# Altium integrated library ST Microcontroller 8-Bit.IntLib: 1326 symbols (part 34 of 45)
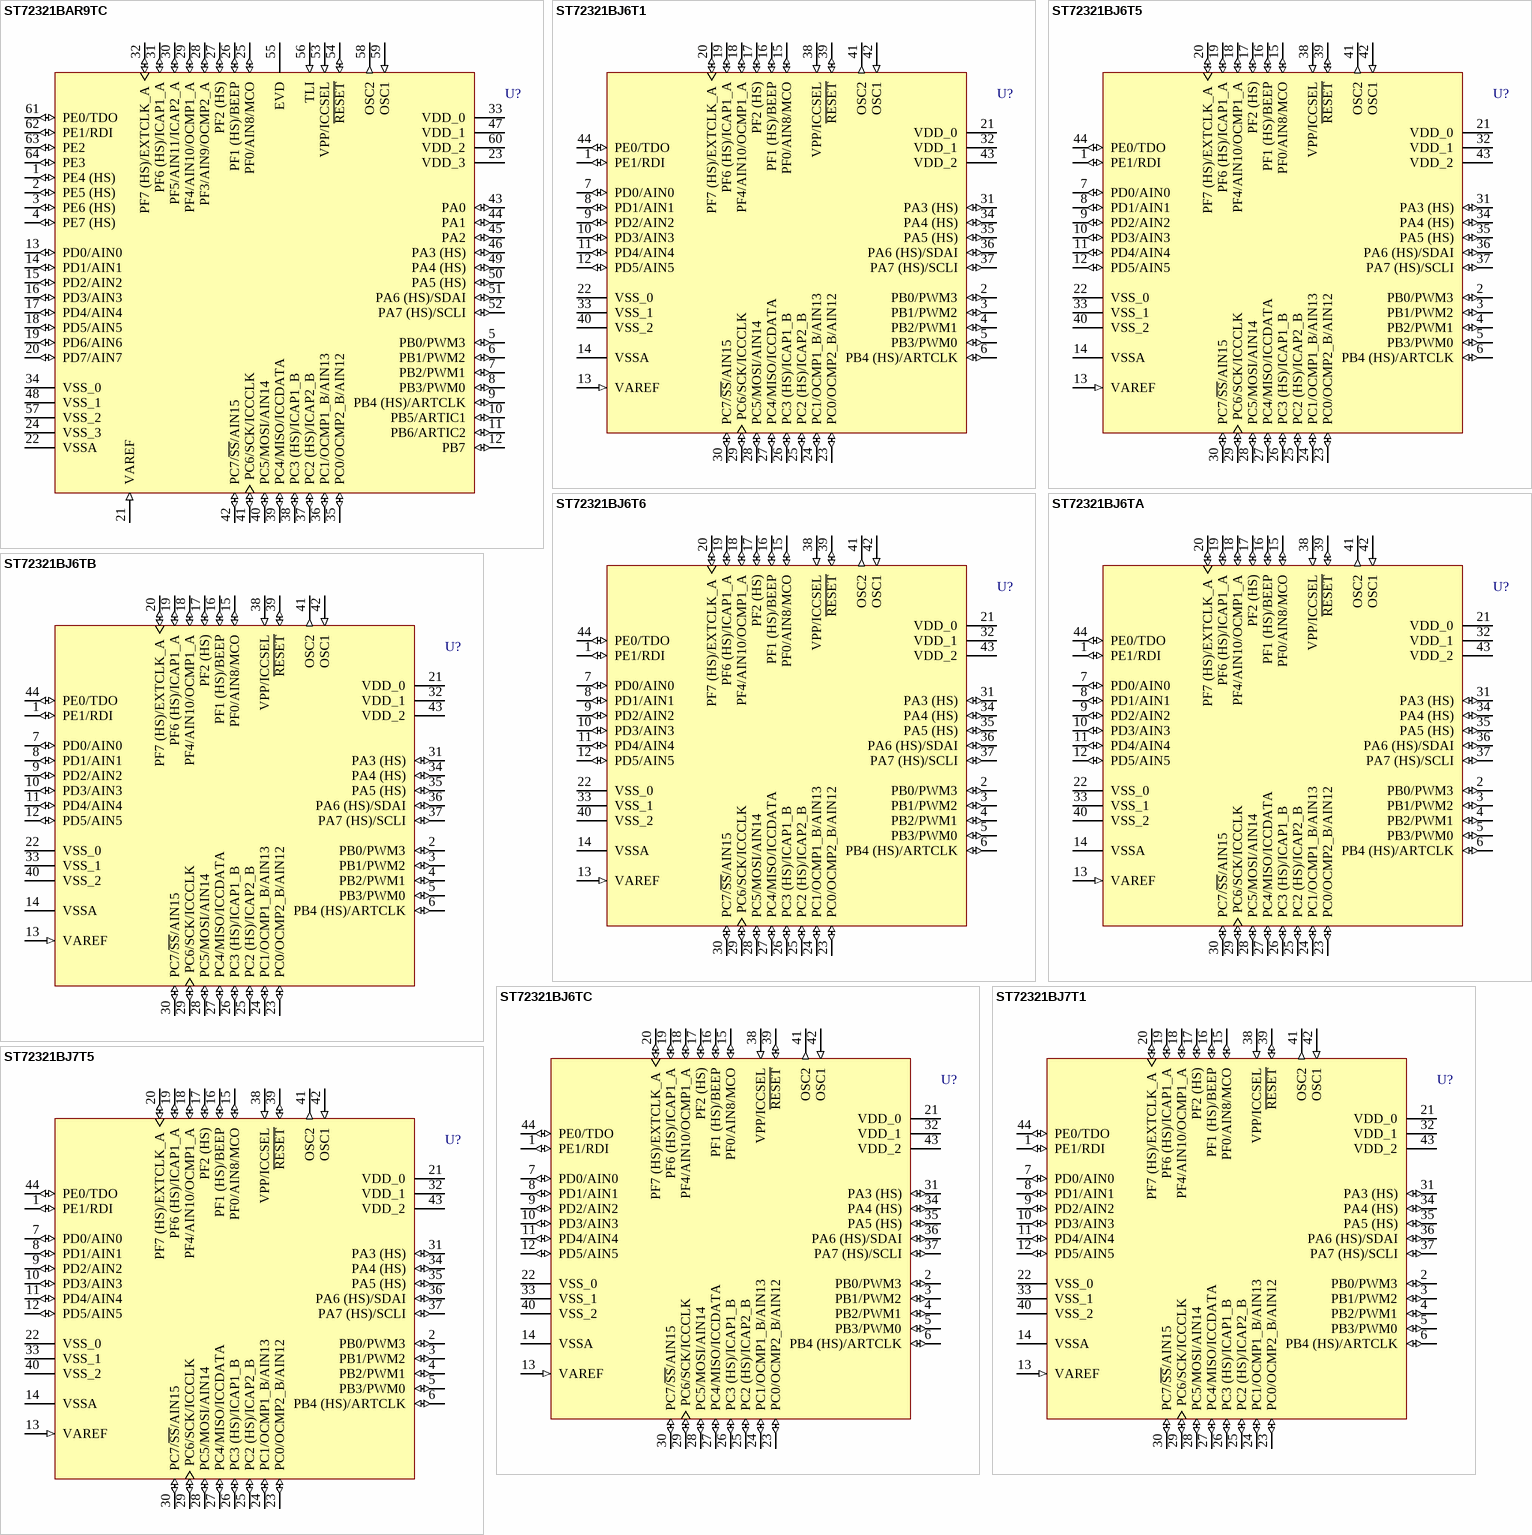
[diagram p200: symbols ST72321BAR9TC to ST72321BJ7T5]

## ST72321BJ6TC
designator U?
8-Bit MCU with 32k ROM, 1024b RAM, Five Timers, SPI, SCI and I²C Interfaces, 44-Pin TQFP, Automotive; Note: Pins 2-6, 15-17 and 31 are External Interrupt (EI) pins.; Published: 26-May-2004; LatestRevisionDate: 13-Apr-2006; LatestRevisionNote: IPC-7351 Footprint Added.; DatasheetVersion: rev1.1, Oct-2003; PackageVersion: Oct-2003; PackageReference: TQFP44; Publisher: Altium Limited; PackageDescription: 44-Pin Thin Plastic Quad Flat Pack 0.8 mm Pitch; ComponentLink1Description: Manufacturer Link; ComponentLink1URL: http://www.st.com/; ComponentLink2Description: Datasheet; ComponentLink2URL: http://www.st.com/stonline/products/literature/ds/11000/st72321b.pdf
footprint TQFP44_N (Thin QFP, 44-Leads, Body 10x10mm, Pitch 0.8mm, IPC Medium Density)
footprint TQFP44_L (Thin QFP, 44-Leads, Body 10x10mm, Pitch 0.8mm, IPC High Density)
footprint TQFP44_M (Thin QFP, 44-Leads, Body 10x10mm, Pitch 0.8mm, IPC Low Density)
3D model ST72321B-TQFP44 (44-Pin Thin Plastic Quad Flat Pack 0.8 mm Pitch)
pins: 1 PE1/RDI (io), 2 PB0/PWM3 (io), 3 PB1/PWM2 (io), 4 PB2/PWM1 (io), 5 PB3/PWM0 (io), 6 PB4 (HS)/ARTCLK (io), 7 PD0/AIN0 (io), 8 PD1/AIN1 (io), 9 PD2/AIN2 (io), 10 PD3/AIN3 (io), 11 PD4/AIN4 (io), 12 PD5/AIN5 (io), 13 VAREF (in), 14 VSSA (power), 15 PF0/AIN8/MCO (io), 16 PF1 (HS)/BEEP (io), 17 PF2 (HS) (io), 18 PF4/AIN10/OCMP1_A (io), 19 PF6 (HS)/ICAP1_A (io), 20 PF7 (HS)/EXTCLK_A (io), 21 VDD_0 (power), 22 VSS_0 (power), 23 PC0/OCMP2_B/AIN12 (io), 24 PC1/OCMP1_B/AIN13 (io), 25 PC2 (HS)/ICAP2_B (io), 26 PC3 (HS)/ICAP1_B (io), 27 PC4/MISO/ICCDATA (io), 28 PC5/MOSI/AIN14 (io), 29 PC6/SCK/ICCCLK (io), 30 PC7/~{SS}/AIN15 (io), 31 PA3 (HS) (io), 32 VDD_1 (power), 33 VSS_1 (power), 34 PA4 (HS) (io), 35 PA5 (HS) (io), 36 PA6 (HS)/SDAI (io), 37 PA7 (HS)/SCLI (io), 38 VPP/ICCSEL (in), 39 ~{RESET} (io), 40 VSS_2 (power), 41 OSC2 (out), 42 OSC1 (in), 43 VDD_2 (power), 44 PE0/TDO (io)

## ST72321BJ7T1
designator U?
8-Bit MCU with 48k ROM, 1536b RAM, Five Timers, SPI, SCI and I²C Interfaces, 44-Pin TQFP, Standard; Note: Pins 2-6, 15-17 and 31 are External Interrupt (EI) pins.; Published: 26-May-2004; LatestRevisionDate: 13-Apr-2006; LatestRevisionNote: IPC-7351 Footprint Added.; DatasheetVersion: rev1.1, Oct-2003; PackageVersion: Oct-2003; PackageReference: TQFP44; Publisher: Altium Limited; PackageDescription: 44-Pin Thin Plastic Quad Flat Pack 0.8 mm Pitch; ComponentLink1Description: Manufacturer Link; ComponentLink1URL: http://www.st.com/; ComponentLink2Description: Datasheet; ComponentLink2URL: http://www.st.com/stonline/products/literature/ds/11000/st72321b.pdf
footprint TQFP44_N (Thin QFP, 44-Leads, Body 10x10mm, Pitch 0.8mm, IPC Medium Density)
footprint TQFP44_L (Thin QFP, 44-Leads, Body 10x10mm, Pitch 0.8mm, IPC High Density)
footprint TQFP44_M (Thin QFP, 44-Leads, Body 10x10mm, Pitch 0.8mm, IPC Low Density)
3D model ST72321B-TQFP44 (44-Pin Thin Plastic Quad Flat Pack 0.8 mm Pitch)
pins: 1 PE1/RDI (io), 2 PB0/PWM3 (io), 3 PB1/PWM2 (io), 4 PB2/PWM1 (io), 5 PB3/PWM0 (io), 6 PB4 (HS)/ARTCLK (io), 7 PD0/AIN0 (io), 8 PD1/AIN1 (io), 9 PD2/AIN2 (io), 10 PD3/AIN3 (io), 11 PD4/AIN4 (io), 12 PD5/AIN5 (io), 13 VAREF (in), 14 VSSA (power), 15 PF0/AIN8/MCO (io), 16 PF1 (HS)/BEEP (io), 17 PF2 (HS) (io), 18 PF4/AIN10/OCMP1_A (io), 19 PF6 (HS)/ICAP1_A (io), 20 PF7 (HS)/EXTCLK_A (io), 21 VDD_0 (power), 22 VSS_0 (power), 23 PC0/OCMP2_B/AIN12 (io), 24 PC1/OCMP1_B/AIN13 (io), 25 PC2 (HS)/ICAP2_B (io), 26 PC3 (HS)/ICAP1_B (io), 27 PC4/MISO/ICCDATA (io), 28 PC5/MOSI/AIN14 (io), 29 PC6/SCK/ICCCLK (io), 30 PC7/~{SS}/AIN15 (io), 31 PA3 (HS) (io), 32 VDD_1 (power), 33 VSS_1 (power), 34 PA4 (HS) (io), 35 PA5 (HS) (io), 36 PA6 (HS)/SDAI (io), 37 PA7 (HS)/SCLI (io), 38 VPP/ICCSEL (in), 39 ~{RESET} (io), 40 VSS_2 (power), 41 OSC2 (out), 42 OSC1 (in), 43 VDD_2 (power), 44 PE0/TDO (io)

## ST72321BJ7T5
designator U?
8-Bit MCU with 48k ROM, 1536b RAM, Five Timers, SPI, SCI and I²C Interfaces, 44-Pin TQFP, Standard; Note: Pins 2-6, 15-17 and 31 are External Interrupt (EI) pins.; Published: 26-May-2004; LatestRevisionDate: 13-Apr-2006; LatestRevisionNote: IPC-7351 Footprint Added.; DatasheetVersion: rev1.1, Oct-2003; PackageVersion: Oct-2003; PackageReference: TQFP44; Publisher: Altium Limited; PackageDescription: 44-Pin Thin Plastic Quad Flat Pack 0.8 mm Pitch; ComponentLink1Description: Manufacturer Link; ComponentLink1URL: http://www.st.com/; ComponentLink2Description: Datasheet; ComponentLink2URL: http://www.st.com/stonline/products/literature/ds/11000/st72321b.pdf
footprint TQFP44_N (Thin QFP, 44-Leads, Body 10x10mm, Pitch 0.8mm, IPC Medium Density)
footprint TQFP44_L (Thin QFP, 44-Leads, Body 10x10mm, Pitch 0.8mm, IPC High Density)
footprint TQFP44_M (Thin QFP, 44-Leads, Body 10x10mm, Pitch 0.8mm, IPC Low Density)
3D model ST72321B-TQFP44 (44-Pin Thin Plastic Quad Flat Pack 0.8 mm Pitch)
pins: 1 PE1/RDI (io), 2 PB0/PWM3 (io), 3 PB1/PWM2 (io), 4 PB2/PWM1 (io), 5 PB3/PWM0 (io), 6 PB4 (HS)/ARTCLK (io), 7 PD0/AIN0 (io), 8 PD1/AIN1 (io), 9 PD2/AIN2 (io), 10 PD3/AIN3 (io), 11 PD4/AIN4 (io), 12 PD5/AIN5 (io), 13 VAREF (in), 14 VSSA (power), 15 PF0/AIN8/MCO (io), 16 PF1 (HS)/BEEP (io), 17 PF2 (HS) (io), 18 PF4/AIN10/OCMP1_A (io), 19 PF6 (HS)/ICAP1_A (io), 20 PF7 (HS)/EXTCLK_A (io), 21 VDD_0 (power), 22 VSS_0 (power), 23 PC0/OCMP2_B/AIN12 (io), 24 PC1/OCMP1_B/AIN13 (io), 25 PC2 (HS)/ICAP2_B (io), 26 PC3 (HS)/ICAP1_B (io), 27 PC4/MISO/ICCDATA (io), 28 PC5/MOSI/AIN14 (io), 29 PC6/SCK/ICCCLK (io), 30 PC7/~{SS}/AIN15 (io), 31 PA3 (HS) (io), 32 VDD_1 (power), 33 VSS_1 (power), 34 PA4 (HS) (io), 35 PA5 (HS) (io), 36 PA6 (HS)/SDAI (io), 37 PA7 (HS)/SCLI (io), 38 VPP/ICCSEL (in), 39 ~{RESET} (io), 40 VSS_2 (power), 41 OSC2 (out), 42 OSC1 (in), 43 VDD_2 (power), 44 PE0/TDO (io)

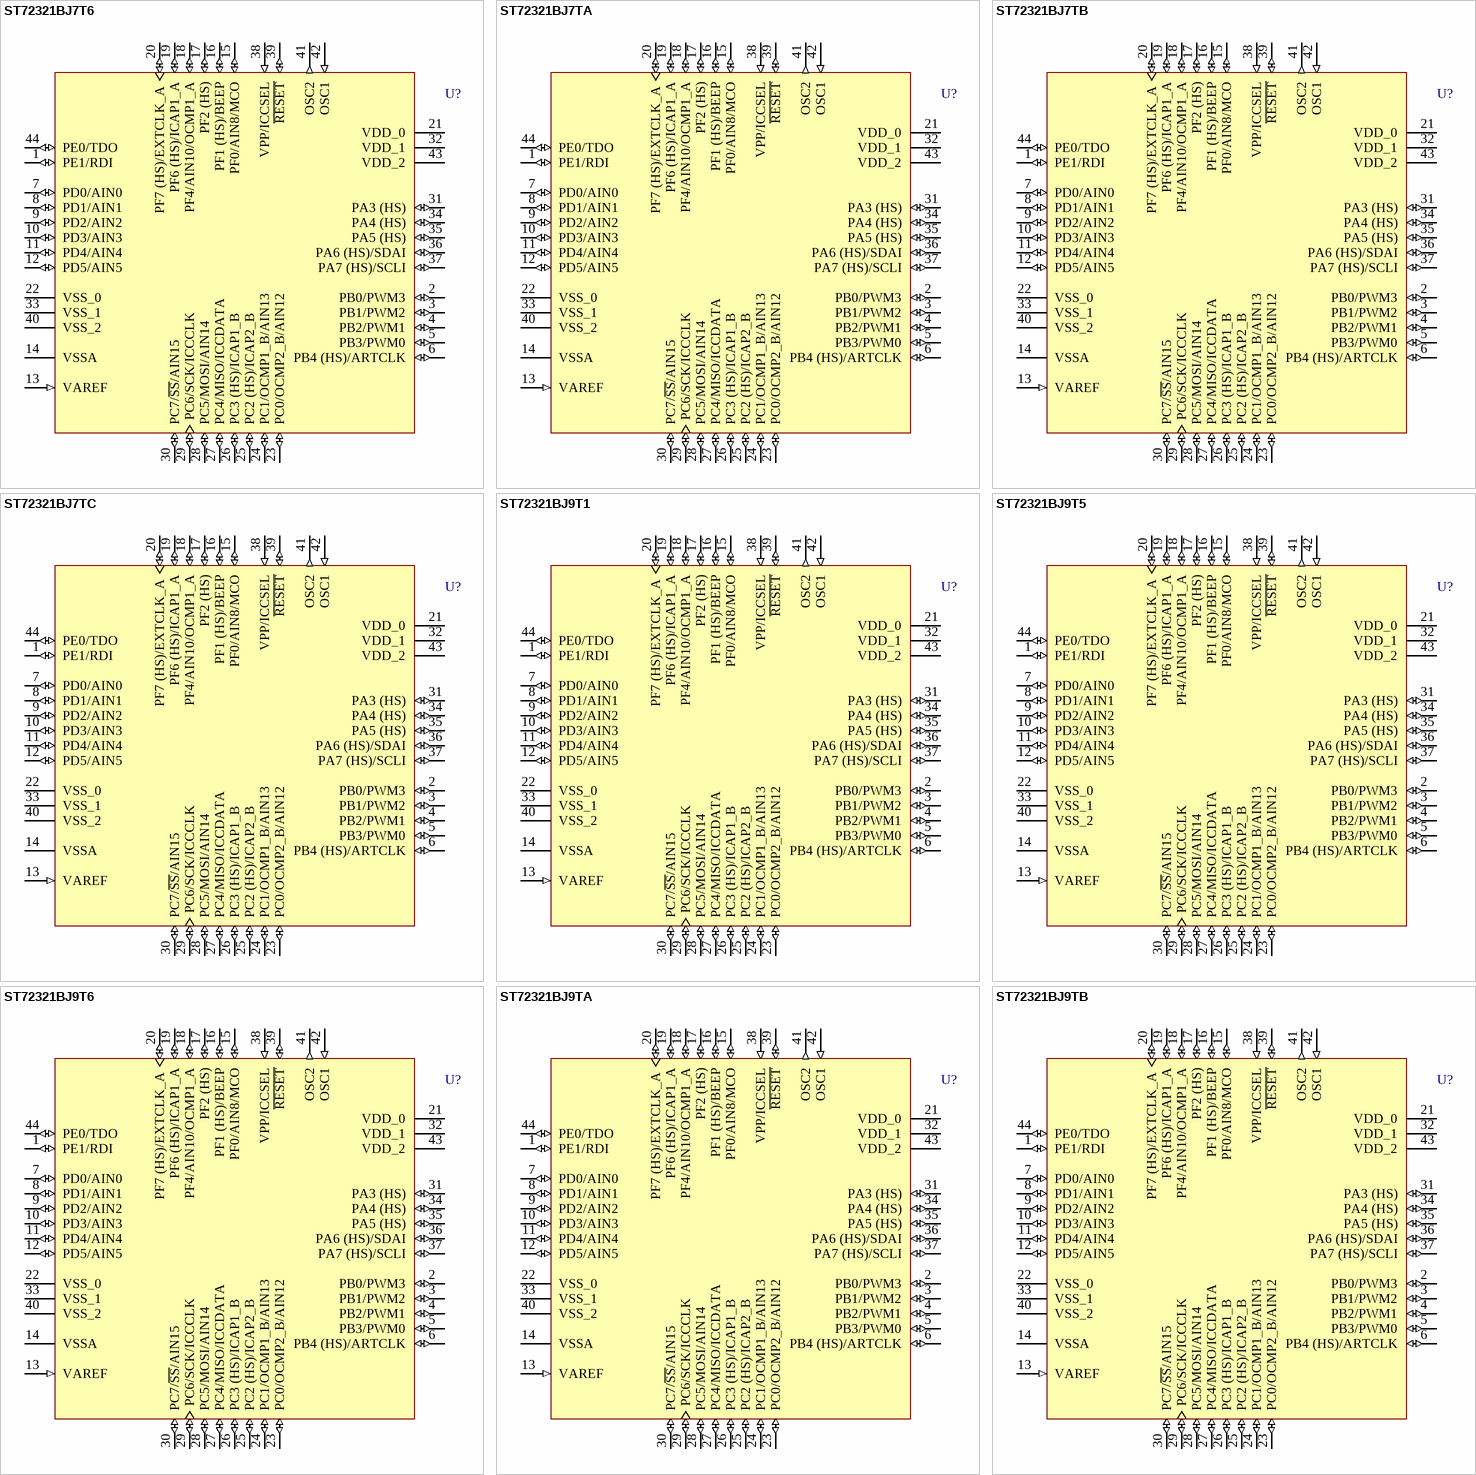
[diagram p118: symbols ST72321BJ7T6 to ST72321BJ9TB]

## ST72321BJ7T6
designator U?
8-Bit MCU with 48k ROM, 1536b RAM, Five Timers, SPI, SCI and I²C Interfaces, 44-Pin TQFP, Standard; Note: Pins 2-6, 15-17 and 31 are External Interrupt (EI) pins.; Published: 26-May-2004; LatestRevisionDate: 13-Apr-2006; LatestRevisionNote: IPC-7351 Footprint Added.; DatasheetVersion: rev1.1, Oct-2003; PackageVersion: Oct-2003; PackageReference: TQFP44; Publisher: Altium Limited; PackageDescription: 44-Pin Thin Plastic Quad Flat Pack 0.8 mm Pitch; ComponentLink1Description: Manufacturer Link; ComponentLink1URL: http://www.st.com/; ComponentLink2Description: Datasheet; ComponentLink2URL: http://www.st.com/stonline/products/literature/ds/11000/st72321b.pdf
footprint TQFP44_N (Thin QFP, 44-Leads, Body 10x10mm, Pitch 0.8mm, IPC Medium Density)
footprint TQFP44_L (Thin QFP, 44-Leads, Body 10x10mm, Pitch 0.8mm, IPC High Density)
footprint TQFP44_M (Thin QFP, 44-Leads, Body 10x10mm, Pitch 0.8mm, IPC Low Density)
3D model ST72321B-TQFP44 (44-Pin Thin Plastic Quad Flat Pack 0.8 mm Pitch)
pins: 1 PE1/RDI (io), 2 PB0/PWM3 (io), 3 PB1/PWM2 (io), 4 PB2/PWM1 (io), 5 PB3/PWM0 (io), 6 PB4 (HS)/ARTCLK (io), 7 PD0/AIN0 (io), 8 PD1/AIN1 (io), 9 PD2/AIN2 (io), 10 PD3/AIN3 (io), 11 PD4/AIN4 (io), 12 PD5/AIN5 (io), 13 VAREF (in), 14 VSSA (power), 15 PF0/AIN8/MCO (io), 16 PF1 (HS)/BEEP (io), 17 PF2 (HS) (io), 18 PF4/AIN10/OCMP1_A (io), 19 PF6 (HS)/ICAP1_A (io), 20 PF7 (HS)/EXTCLK_A (io), 21 VDD_0 (power), 22 VSS_0 (power), 23 PC0/OCMP2_B/AIN12 (io), 24 PC1/OCMP1_B/AIN13 (io), 25 PC2 (HS)/ICAP2_B (io), 26 PC3 (HS)/ICAP1_B (io), 27 PC4/MISO/ICCDATA (io), 28 PC5/MOSI/AIN14 (io), 29 PC6/SCK/ICCCLK (io), 30 PC7/~{SS}/AIN15 (io), 31 PA3 (HS) (io), 32 VDD_1 (power), 33 VSS_1 (power), 34 PA4 (HS) (io), 35 PA5 (HS) (io), 36 PA6 (HS)/SDAI (io), 37 PA7 (HS)/SCLI (io), 38 VPP/ICCSEL (in), 39 ~{RESET} (io), 40 VSS_2 (power), 41 OSC2 (out), 42 OSC1 (in), 43 VDD_2 (power), 44 PE0/TDO (io)

## ST72321BJ7TA
designator U?
8-Bit MCU with 48k ROM, 1536b RAM, Five Timers, SPI, SCI and I²C Interfaces, 44-Pin TQFP, Automotive; Note: Pins 2-6, 15-17 and 31 are External Interrupt (EI) pins.; Published: 26-May-2004; LatestRevisionDate: 13-Apr-2006; LatestRevisionNote: IPC-7351 Footprint Added.; DatasheetVersion: rev1.1, Oct-2003; PackageVersion: Oct-2003; PackageReference: TQFP44; Publisher: Altium Limited; PackageDescription: 44-Pin Thin Plastic Quad Flat Pack 0.8 mm Pitch; ComponentLink1Description: Manufacturer Link; ComponentLink1URL: http://www.st.com/; ComponentLink2Description: Datasheet; ComponentLink2URL: http://www.st.com/stonline/products/literature/ds/11000/st72321b.pdf
footprint TQFP44_N (Thin QFP, 44-Leads, Body 10x10mm, Pitch 0.8mm, IPC Medium Density)
footprint TQFP44_L (Thin QFP, 44-Leads, Body 10x10mm, Pitch 0.8mm, IPC High Density)
footprint TQFP44_M (Thin QFP, 44-Leads, Body 10x10mm, Pitch 0.8mm, IPC Low Density)
3D model ST72321B-TQFP44 (44-Pin Thin Plastic Quad Flat Pack 0.8 mm Pitch)
pins: 1 PE1/RDI (io), 2 PB0/PWM3 (io), 3 PB1/PWM2 (io), 4 PB2/PWM1 (io), 5 PB3/PWM0 (io), 6 PB4 (HS)/ARTCLK (io), 7 PD0/AIN0 (io), 8 PD1/AIN1 (io), 9 PD2/AIN2 (io), 10 PD3/AIN3 (io), 11 PD4/AIN4 (io), 12 PD5/AIN5 (io), 13 VAREF (in), 14 VSSA (power), 15 PF0/AIN8/MCO (io), 16 PF1 (HS)/BEEP (io), 17 PF2 (HS) (io), 18 PF4/AIN10/OCMP1_A (io), 19 PF6 (HS)/ICAP1_A (io), 20 PF7 (HS)/EXTCLK_A (io), 21 VDD_0 (power), 22 VSS_0 (power), 23 PC0/OCMP2_B/AIN12 (io), 24 PC1/OCMP1_B/AIN13 (io), 25 PC2 (HS)/ICAP2_B (io), 26 PC3 (HS)/ICAP1_B (io), 27 PC4/MISO/ICCDATA (io), 28 PC5/MOSI/AIN14 (io), 29 PC6/SCK/ICCCLK (io), 30 PC7/~{SS}/AIN15 (io), 31 PA3 (HS) (io), 32 VDD_1 (power), 33 VSS_1 (power), 34 PA4 (HS) (io), 35 PA5 (HS) (io), 36 PA6 (HS)/SDAI (io), 37 PA7 (HS)/SCLI (io), 38 VPP/ICCSEL (in), 39 ~{RESET} (io), 40 VSS_2 (power), 41 OSC2 (out), 42 OSC1 (in), 43 VDD_2 (power), 44 PE0/TDO (io)

## ST72321BJ7TB
designator U?
8-Bit MCU with 48k ROM, 1536b RAM, Five Timers, SPI, SCI and I²C Interfaces, 44-Pin TQFP, Automotive; Note: Pins 2-6, 15-17 and 31 are External Interrupt (EI) pins.; Published: 26-May-2004; LatestRevisionDate: 13-Apr-2006; LatestRevisionNote: IPC-7351 Footprint Added.; DatasheetVersion: rev1.1, Oct-2003; PackageVersion: Oct-2003; PackageReference: TQFP44; Publisher: Altium Limited; PackageDescription: 44-Pin Thin Plastic Quad Flat Pack 0.8 mm Pitch; ComponentLink1Description: Manufacturer Link; ComponentLink1URL: http://www.st.com/; ComponentLink2Description: Datasheet; ComponentLink2URL: http://www.st.com/stonline/products/literature/ds/11000/st72321b.pdf
footprint TQFP44_N (Thin QFP, 44-Leads, Body 10x10mm, Pitch 0.8mm, IPC Medium Density)
footprint TQFP44_L (Thin QFP, 44-Leads, Body 10x10mm, Pitch 0.8mm, IPC High Density)
footprint TQFP44_M (Thin QFP, 44-Leads, Body 10x10mm, Pitch 0.8mm, IPC Low Density)
3D model ST72321B-TQFP44 (44-Pin Thin Plastic Quad Flat Pack 0.8 mm Pitch)
pins: 1 PE1/RDI (io), 2 PB0/PWM3 (io), 3 PB1/PWM2 (io), 4 PB2/PWM1 (io), 5 PB3/PWM0 (io), 6 PB4 (HS)/ARTCLK (io), 7 PD0/AIN0 (io), 8 PD1/AIN1 (io), 9 PD2/AIN2 (io), 10 PD3/AIN3 (io), 11 PD4/AIN4 (io), 12 PD5/AIN5 (io), 13 VAREF (in), 14 VSSA (power), 15 PF0/AIN8/MCO (io), 16 PF1 (HS)/BEEP (io), 17 PF2 (HS) (io), 18 PF4/AIN10/OCMP1_A (io), 19 PF6 (HS)/ICAP1_A (io), 20 PF7 (HS)/EXTCLK_A (io), 21 VDD_0 (power), 22 VSS_0 (power), 23 PC0/OCMP2_B/AIN12 (io), 24 PC1/OCMP1_B/AIN13 (io), 25 PC2 (HS)/ICAP2_B (io), 26 PC3 (HS)/ICAP1_B (io), 27 PC4/MISO/ICCDATA (io), 28 PC5/MOSI/AIN14 (io), 29 PC6/SCK/ICCCLK (io), 30 PC7/~{SS}/AIN15 (io), 31 PA3 (HS) (io), 32 VDD_1 (power), 33 VSS_1 (power), 34 PA4 (HS) (io), 35 PA5 (HS) (io), 36 PA6 (HS)/SDAI (io), 37 PA7 (HS)/SCLI (io), 38 VPP/ICCSEL (in), 39 ~{RESET} (io), 40 VSS_2 (power), 41 OSC2 (out), 42 OSC1 (in), 43 VDD_2 (power), 44 PE0/TDO (io)

## ST72321BJ7TC
designator U?
8-Bit MCU with 48k ROM, 1536b RAM, Five Timers, SPI, SCI and I²C Interfaces, 44-Pin TQFP, Automotive; Note: Pins 2-6, 15-17 and 31 are External Interrupt (EI) pins.; Published: 26-May-2004; LatestRevisionDate: 13-Apr-2006; LatestRevisionNote: IPC-7351 Footprint Added.; DatasheetVersion: rev1.1, Oct-2003; PackageVersion: Oct-2003; PackageReference: TQFP44; Publisher: Altium Limited; PackageDescription: 44-Pin Thin Plastic Quad Flat Pack 0.8 mm Pitch; ComponentLink1Description: Manufacturer Link; ComponentLink1URL: http://www.st.com/; ComponentLink2Description: Datasheet; ComponentLink2URL: http://www.st.com/stonline/products/literature/ds/11000/st72321b.pdf
footprint TQFP44_N (Thin QFP, 44-Leads, Body 10x10mm, Pitch 0.8mm, IPC Medium Density)
footprint TQFP44_L (Thin QFP, 44-Leads, Body 10x10mm, Pitch 0.8mm, IPC High Density)
footprint TQFP44_M (Thin QFP, 44-Leads, Body 10x10mm, Pitch 0.8mm, IPC Low Density)
3D model ST72321B-TQFP44 (44-Pin Thin Plastic Quad Flat Pack 0.8 mm Pitch)
pins: 1 PE1/RDI (io), 2 PB0/PWM3 (io), 3 PB1/PWM2 (io), 4 PB2/PWM1 (io), 5 PB3/PWM0 (io), 6 PB4 (HS)/ARTCLK (io), 7 PD0/AIN0 (io), 8 PD1/AIN1 (io), 9 PD2/AIN2 (io), 10 PD3/AIN3 (io), 11 PD4/AIN4 (io), 12 PD5/AIN5 (io), 13 VAREF (in), 14 VSSA (power), 15 PF0/AIN8/MCO (io), 16 PF1 (HS)/BEEP (io), 17 PF2 (HS) (io), 18 PF4/AIN10/OCMP1_A (io), 19 PF6 (HS)/ICAP1_A (io), 20 PF7 (HS)/EXTCLK_A (io), 21 VDD_0 (power), 22 VSS_0 (power), 23 PC0/OCMP2_B/AIN12 (io), 24 PC1/OCMP1_B/AIN13 (io), 25 PC2 (HS)/ICAP2_B (io), 26 PC3 (HS)/ICAP1_B (io), 27 PC4/MISO/ICCDATA (io), 28 PC5/MOSI/AIN14 (io), 29 PC6/SCK/ICCCLK (io), 30 PC7/~{SS}/AIN15 (io), 31 PA3 (HS) (io), 32 VDD_1 (power), 33 VSS_1 (power), 34 PA4 (HS) (io), 35 PA5 (HS) (io), 36 PA6 (HS)/SDAI (io), 37 PA7 (HS)/SCLI (io), 38 VPP/ICCSEL (in), 39 ~{RESET} (io), 40 VSS_2 (power), 41 OSC2 (out), 42 OSC1 (in), 43 VDD_2 (power), 44 PE0/TDO (io)

## ST72321BJ9T1
designator U?
8-Bit MCU with 60k ROM, 2048b RAM, Five Timers, SPI, SCI and I²C Interfaces, 44-Pin TQFP, Standard; Note: Pins 2-6, 15-17 and 31 are External Interrupt (EI) pins.; Published: 26-May-2004; LatestRevisionDate: 13-Apr-2006; LatestRevisionNote: IPC-7351 Footprint Added.; DatasheetVersion: rev1.1, Oct-2003; PackageVersion: Oct-2003; PackageReference: TQFP44; Publisher: Altium Limited; PackageDescription: 44-Pin Thin Plastic Quad Flat Pack 0.8 mm Pitch; ComponentLink1Description: Manufacturer Link; ComponentLink1URL: http://www.st.com/; ComponentLink2Description: Datasheet; ComponentLink2URL: http://www.st.com/stonline/products/literature/ds/11000/st72321b.pdf
footprint TQFP44_N (Thin QFP, 44-Leads, Body 10x10mm, Pitch 0.8mm, IPC Medium Density)
footprint TQFP44_L (Thin QFP, 44-Leads, Body 10x10mm, Pitch 0.8mm, IPC High Density)
footprint TQFP44_M (Thin QFP, 44-Leads, Body 10x10mm, Pitch 0.8mm, IPC Low Density)
3D model ST72321B-TQFP44 (44-Pin Thin Plastic Quad Flat Pack 0.8 mm Pitch)
pins: 1 PE1/RDI (io), 2 PB0/PWM3 (io), 3 PB1/PWM2 (io), 4 PB2/PWM1 (io), 5 PB3/PWM0 (io), 6 PB4 (HS)/ARTCLK (io), 7 PD0/AIN0 (io), 8 PD1/AIN1 (io), 9 PD2/AIN2 (io), 10 PD3/AIN3 (io), 11 PD4/AIN4 (io), 12 PD5/AIN5 (io), 13 VAREF (in), 14 VSSA (power), 15 PF0/AIN8/MCO (io), 16 PF1 (HS)/BEEP (io), 17 PF2 (HS) (io), 18 PF4/AIN10/OCMP1_A (io), 19 PF6 (HS)/ICAP1_A (io), 20 PF7 (HS)/EXTCLK_A (io), 21 VDD_0 (power), 22 VSS_0 (power), 23 PC0/OCMP2_B/AIN12 (io), 24 PC1/OCMP1_B/AIN13 (io), 25 PC2 (HS)/ICAP2_B (io), 26 PC3 (HS)/ICAP1_B (io), 27 PC4/MISO/ICCDATA (io), 28 PC5/MOSI/AIN14 (io), 29 PC6/SCK/ICCCLK (io), 30 PC7/~{SS}/AIN15 (io), 31 PA3 (HS) (io), 32 VDD_1 (power), 33 VSS_1 (power), 34 PA4 (HS) (io), 35 PA5 (HS) (io), 36 PA6 (HS)/SDAI (io), 37 PA7 (HS)/SCLI (io), 38 VPP/ICCSEL (in), 39 ~{RESET} (io), 40 VSS_2 (power), 41 OSC2 (out), 42 OSC1 (in), 43 VDD_2 (power), 44 PE0/TDO (io)

## ST72321BJ9T5
designator U?
8-Bit MCU with 60k ROM, 2048b RAM, Five Timers, SPI, SCI and I²C Interfaces, 44-Pin TQFP, Standard; Note: Pins 2-6, 15-17 and 31 are External Interrupt (EI) pins.; Published: 26-May-2004; LatestRevisionDate: 13-Apr-2006; LatestRevisionNote: IPC-7351 Footprint Added.; DatasheetVersion: rev1.1, Oct-2003; PackageVersion: Oct-2003; PackageReference: TQFP44; Publisher: Altium Limited; PackageDescription: 44-Pin Thin Plastic Quad Flat Pack 0.8 mm Pitch; ComponentLink1Description: Manufacturer Link; ComponentLink1URL: http://www.st.com/; ComponentLink2Description: Datasheet; ComponentLink2URL: http://www.st.com/stonline/products/literature/ds/11000/st72321b.pdf
footprint TQFP44_N (Thin QFP, 44-Leads, Body 10x10mm, Pitch 0.8mm, IPC Medium Density)
footprint TQFP44_L (Thin QFP, 44-Leads, Body 10x10mm, Pitch 0.8mm, IPC High Density)
footprint TQFP44_M (Thin QFP, 44-Leads, Body 10x10mm, Pitch 0.8mm, IPC Low Density)
3D model ST72321B-TQFP44 (44-Pin Thin Plastic Quad Flat Pack 0.8 mm Pitch)
pins: 1 PE1/RDI (io), 2 PB0/PWM3 (io), 3 PB1/PWM2 (io), 4 PB2/PWM1 (io), 5 PB3/PWM0 (io), 6 PB4 (HS)/ARTCLK (io), 7 PD0/AIN0 (io), 8 PD1/AIN1 (io), 9 PD2/AIN2 (io), 10 PD3/AIN3 (io), 11 PD4/AIN4 (io), 12 PD5/AIN5 (io), 13 VAREF (in), 14 VSSA (power), 15 PF0/AIN8/MCO (io), 16 PF1 (HS)/BEEP (io), 17 PF2 (HS) (io), 18 PF4/AIN10/OCMP1_A (io), 19 PF6 (HS)/ICAP1_A (io), 20 PF7 (HS)/EXTCLK_A (io), 21 VDD_0 (power), 22 VSS_0 (power), 23 PC0/OCMP2_B/AIN12 (io), 24 PC1/OCMP1_B/AIN13 (io), 25 PC2 (HS)/ICAP2_B (io), 26 PC3 (HS)/ICAP1_B (io), 27 PC4/MISO/ICCDATA (io), 28 PC5/MOSI/AIN14 (io), 29 PC6/SCK/ICCCLK (io), 30 PC7/~{SS}/AIN15 (io), 31 PA3 (HS) (io), 32 VDD_1 (power), 33 VSS_1 (power), 34 PA4 (HS) (io), 35 PA5 (HS) (io), 36 PA6 (HS)/SDAI (io), 37 PA7 (HS)/SCLI (io), 38 VPP/ICCSEL (in), 39 ~{RESET} (io), 40 VSS_2 (power), 41 OSC2 (out), 42 OSC1 (in), 43 VDD_2 (power), 44 PE0/TDO (io)

## ST72321BJ9T6
designator U?
8-Bit MCU with 60k ROM, 2048b RAM, Five Timers, SPI, SCI and I²C Interfaces, 44-Pin TQFP, Standard; Note: Pins 2-6, 15-17 and 31 are External Interrupt (EI) pins.; Published: 26-May-2004; LatestRevisionDate: 13-Apr-2006; LatestRevisionNote: IPC-7351 Footprint Added.; DatasheetVersion: rev1.1, Oct-2003; PackageVersion: Oct-2003; PackageReference: TQFP44; Publisher: Altium Limited; PackageDescription: 44-Pin Thin Plastic Quad Flat Pack 0.8 mm Pitch; ComponentLink1Description: Manufacturer Link; ComponentLink1URL: http://www.st.com/; ComponentLink2Description: Datasheet; ComponentLink2URL: http://www.st.com/stonline/products/literature/ds/11000/st72321b.pdf
footprint TQFP44_N (Thin QFP, 44-Leads, Body 10x10mm, Pitch 0.8mm, IPC Medium Density)
footprint TQFP44_L (Thin QFP, 44-Leads, Body 10x10mm, Pitch 0.8mm, IPC High Density)
footprint TQFP44_M (Thin QFP, 44-Leads, Body 10x10mm, Pitch 0.8mm, IPC Low Density)
3D model ST72321B-TQFP44 (44-Pin Thin Plastic Quad Flat Pack 0.8 mm Pitch)
pins: 1 PE1/RDI (io), 2 PB0/PWM3 (io), 3 PB1/PWM2 (io), 4 PB2/PWM1 (io), 5 PB3/PWM0 (io), 6 PB4 (HS)/ARTCLK (io), 7 PD0/AIN0 (io), 8 PD1/AIN1 (io), 9 PD2/AIN2 (io), 10 PD3/AIN3 (io), 11 PD4/AIN4 (io), 12 PD5/AIN5 (io), 13 VAREF (in), 14 VSSA (power), 15 PF0/AIN8/MCO (io), 16 PF1 (HS)/BEEP (io), 17 PF2 (HS) (io), 18 PF4/AIN10/OCMP1_A (io), 19 PF6 (HS)/ICAP1_A (io), 20 PF7 (HS)/EXTCLK_A (io), 21 VDD_0 (power), 22 VSS_0 (power), 23 PC0/OCMP2_B/AIN12 (io), 24 PC1/OCMP1_B/AIN13 (io), 25 PC2 (HS)/ICAP2_B (io), 26 PC3 (HS)/ICAP1_B (io), 27 PC4/MISO/ICCDATA (io), 28 PC5/MOSI/AIN14 (io), 29 PC6/SCK/ICCCLK (io), 30 PC7/~{SS}/AIN15 (io), 31 PA3 (HS) (io), 32 VDD_1 (power), 33 VSS_1 (power), 34 PA4 (HS) (io), 35 PA5 (HS) (io), 36 PA6 (HS)/SDAI (io), 37 PA7 (HS)/SCLI (io), 38 VPP/ICCSEL (in), 39 ~{RESET} (io), 40 VSS_2 (power), 41 OSC2 (out), 42 OSC1 (in), 43 VDD_2 (power), 44 PE0/TDO (io)

## ST72321BJ9TA
designator U?
8-Bit MCU with 60k ROM, 2048b RAM, Five Timers, SPI, SCI and I²C Interfaces, 44-Pin TQFP, Automotive; Note: Pins 2-6, 15-17 and 31 are External Interrupt (EI) pins.; Published: 26-May-2004; LatestRevisionDate: 13-Apr-2006; LatestRevisionNote: IPC-7351 Footprint Added.; DatasheetVersion: rev1.1, Oct-2003; PackageVersion: Oct-2003; PackageReference: TQFP44; Publisher: Altium Limited; PackageDescription: 44-Pin Thin Plastic Quad Flat Pack 0.8 mm Pitch; ComponentLink1Description: Manufacturer Link; ComponentLink1URL: http://www.st.com/; ComponentLink2Description: Datasheet; ComponentLink2URL: http://www.st.com/stonline/products/literature/ds/11000/st72321b.pdf
footprint TQFP44_N (Thin QFP, 44-Leads, Body 10x10mm, Pitch 0.8mm, IPC Medium Density)
footprint TQFP44_L (Thin QFP, 44-Leads, Body 10x10mm, Pitch 0.8mm, IPC High Density)
footprint TQFP44_M (Thin QFP, 44-Leads, Body 10x10mm, Pitch 0.8mm, IPC Low Density)
3D model ST72321B-TQFP44 (44-Pin Thin Plastic Quad Flat Pack 0.8 mm Pitch)
pins: 1 PE1/RDI (io), 2 PB0/PWM3 (io), 3 PB1/PWM2 (io), 4 PB2/PWM1 (io), 5 PB3/PWM0 (io), 6 PB4 (HS)/ARTCLK (io), 7 PD0/AIN0 (io), 8 PD1/AIN1 (io), 9 PD2/AIN2 (io), 10 PD3/AIN3 (io), 11 PD4/AIN4 (io), 12 PD5/AIN5 (io), 13 VAREF (in), 14 VSSA (power), 15 PF0/AIN8/MCO (io), 16 PF1 (HS)/BEEP (io), 17 PF2 (HS) (io), 18 PF4/AIN10/OCMP1_A (io), 19 PF6 (HS)/ICAP1_A (io), 20 PF7 (HS)/EXTCLK_A (io), 21 VDD_0 (power), 22 VSS_0 (power), 23 PC0/OCMP2_B/AIN12 (io), 24 PC1/OCMP1_B/AIN13 (io), 25 PC2 (HS)/ICAP2_B (io), 26 PC3 (HS)/ICAP1_B (io), 27 PC4/MISO/ICCDATA (io), 28 PC5/MOSI/AIN14 (io), 29 PC6/SCK/ICCCLK (io), 30 PC7/~{SS}/AIN15 (io), 31 PA3 (HS) (io), 32 VDD_1 (power), 33 VSS_1 (power), 34 PA4 (HS) (io), 35 PA5 (HS) (io), 36 PA6 (HS)/SDAI (io), 37 PA7 (HS)/SCLI (io), 38 VPP/ICCSEL (in), 39 ~{RESET} (io), 40 VSS_2 (power), 41 OSC2 (out), 42 OSC1 (in), 43 VDD_2 (power), 44 PE0/TDO (io)

## ST72321BJ9TB
designator U?
8-Bit MCU with 60k ROM, 2048b RAM, Five Timers, SPI, SCI and I²C Interfaces, 44-Pin TQFP, Automotive; Note: Pins 2-6, 15-17 and 31 are External Interrupt (EI) pins.; Published: 26-May-2004; LatestRevisionDate: 13-Apr-2006; LatestRevisionNote: IPC-7351 Footprint Added.; DatasheetVersion: rev1.1, Oct-2003; PackageVersion: Oct-2003; PackageReference: TQFP44; Publisher: Altium Limited; PackageDescription: 44-Pin Thin Plastic Quad Flat Pack 0.8 mm Pitch; ComponentLink1Description: Manufacturer Link; ComponentLink1URL: http://www.st.com/; ComponentLink2Description: Datasheet; ComponentLink2URL: http://www.st.com/stonline/products/literature/ds/11000/st72321b.pdf
footprint TQFP44_N (Thin QFP, 44-Leads, Body 10x10mm, Pitch 0.8mm, IPC Medium Density)
footprint TQFP44_L (Thin QFP, 44-Leads, Body 10x10mm, Pitch 0.8mm, IPC High Density)
footprint TQFP44_M (Thin QFP, 44-Leads, Body 10x10mm, Pitch 0.8mm, IPC Low Density)
3D model ST72321B-TQFP44 (44-Pin Thin Plastic Quad Flat Pack 0.8 mm Pitch)
pins: 1 PE1/RDI (io), 2 PB0/PWM3 (io), 3 PB1/PWM2 (io), 4 PB2/PWM1 (io), 5 PB3/PWM0 (io), 6 PB4 (HS)/ARTCLK (io), 7 PD0/AIN0 (io), 8 PD1/AIN1 (io), 9 PD2/AIN2 (io), 10 PD3/AIN3 (io), 11 PD4/AIN4 (io), 12 PD5/AIN5 (io), 13 VAREF (in), 14 VSSA (power), 15 PF0/AIN8/MCO (io), 16 PF1 (HS)/BEEP (io), 17 PF2 (HS) (io), 18 PF4/AIN10/OCMP1_A (io), 19 PF6 (HS)/ICAP1_A (io), 20 PF7 (HS)/EXTCLK_A (io), 21 VDD_0 (power), 22 VSS_0 (power), 23 PC0/OCMP2_B/AIN12 (io), 24 PC1/OCMP1_B/AIN13 (io), 25 PC2 (HS)/ICAP2_B (io), 26 PC3 (HS)/ICAP1_B (io), 27 PC4/MISO/ICCDATA (io), 28 PC5/MOSI/AIN14 (io), 29 PC6/SCK/ICCCLK (io), 30 PC7/~{SS}/AIN15 (io), 31 PA3 (HS) (io), 32 VDD_1 (power), 33 VSS_1 (power), 34 PA4 (HS) (io), 35 PA5 (HS) (io), 36 PA6 (HS)/SDAI (io), 37 PA7 (HS)/SCLI (io), 38 VPP/ICCSEL (in), 39 ~{RESET} (io), 40 VSS_2 (power), 41 OSC2 (out), 42 OSC1 (in), 43 VDD_2 (power), 44 PE0/TDO (io)

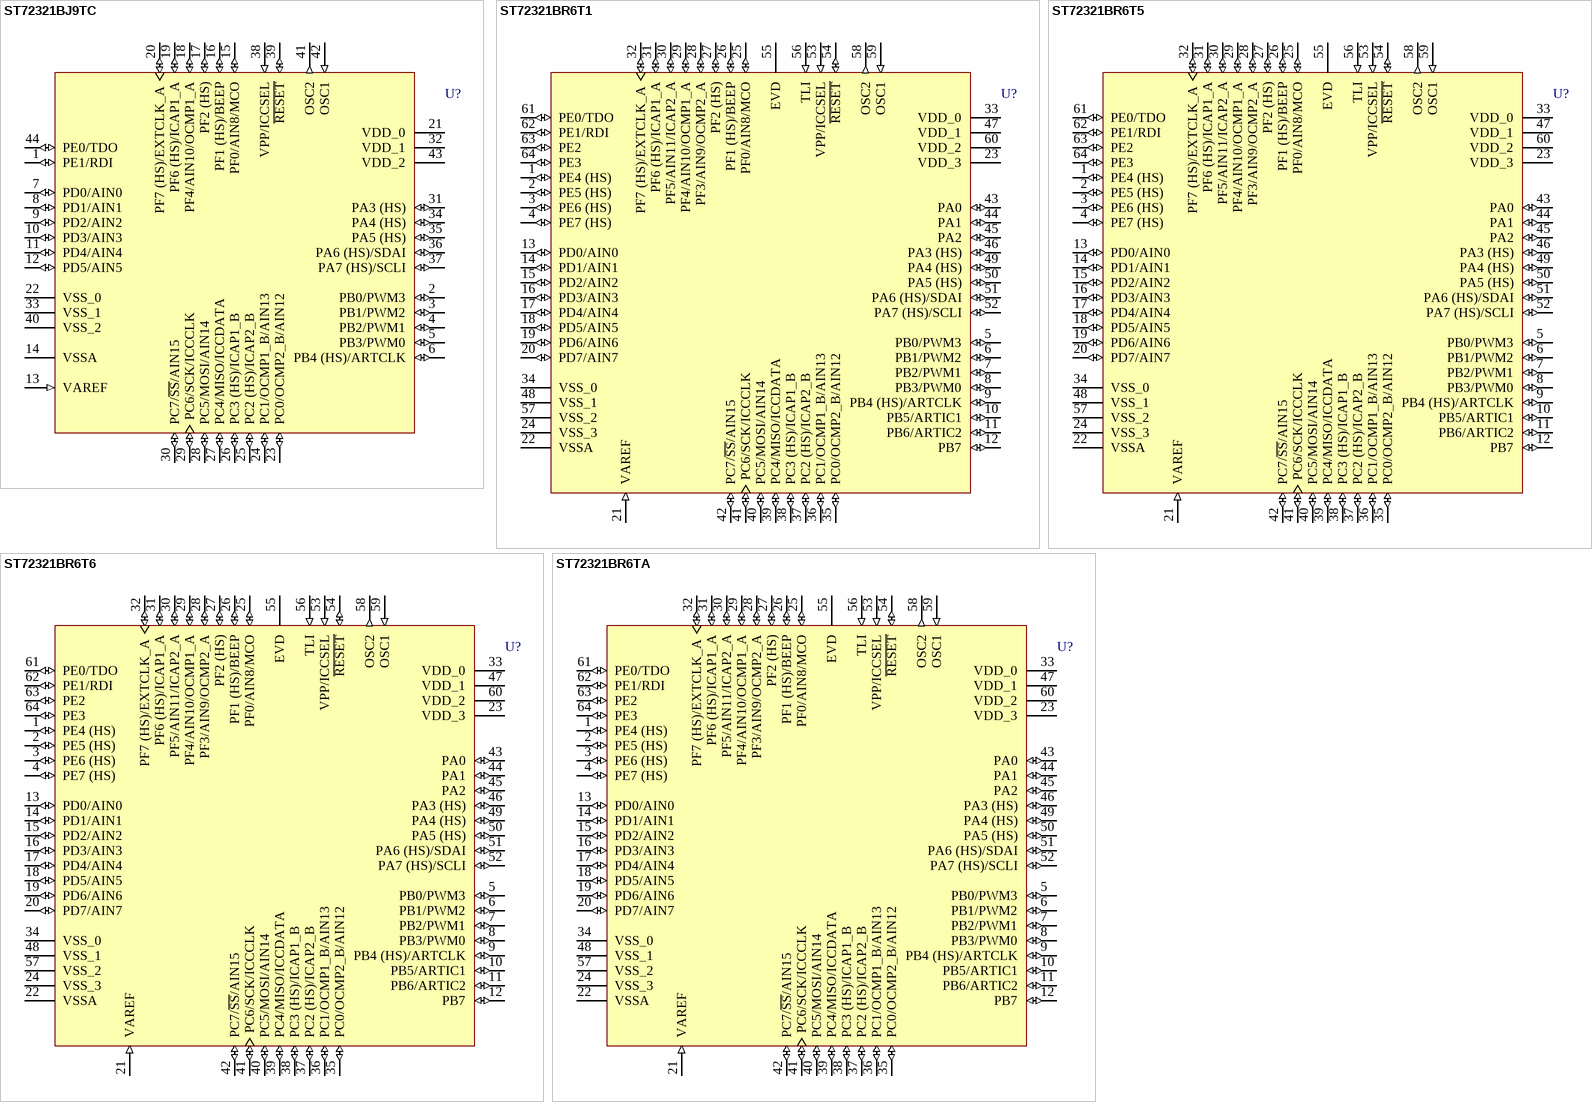
[diagram p119: symbols ST72321BJ9TC to ST72321BR6TA]

## ST72321BJ9TC
designator U?
8-Bit MCU with 60k ROM, 2048b RAM, Five Timers, SPI, SCI and I²C Interfaces, 44-Pin TQFP, Automotive; Note: Pins 2-6, 15-17 and 31 are External Interrupt (EI) pins.; Published: 26-May-2004; LatestRevisionDate: 13-Apr-2006; LatestRevisionNote: IPC-7351 Footprint Added.; DatasheetVersion: rev1.1, Oct-2003; PackageVersion: Oct-2003; PackageReference: TQFP44; Publisher: Altium Limited; PackageDescription: 44-Pin Thin Plastic Quad Flat Pack 0.8 mm Pitch; ComponentLink1Description: Manufacturer Link; ComponentLink1URL: http://www.st.com/; ComponentLink2Description: Datasheet; ComponentLink2URL: http://www.st.com/stonline/products/literature/ds/11000/st72321b.pdf
footprint TQFP44_N (Thin QFP, 44-Leads, Body 10x10mm, Pitch 0.8mm, IPC Medium Density)
footprint TQFP44_L (Thin QFP, 44-Leads, Body 10x10mm, Pitch 0.8mm, IPC High Density)
footprint TQFP44_M (Thin QFP, 44-Leads, Body 10x10mm, Pitch 0.8mm, IPC Low Density)
3D model ST72321B-TQFP44 (44-Pin Thin Plastic Quad Flat Pack 0.8 mm Pitch)
pins: 1 PE1/RDI (io), 2 PB0/PWM3 (io), 3 PB1/PWM2 (io), 4 PB2/PWM1 (io), 5 PB3/PWM0 (io), 6 PB4 (HS)/ARTCLK (io), 7 PD0/AIN0 (io), 8 PD1/AIN1 (io), 9 PD2/AIN2 (io), 10 PD3/AIN3 (io), 11 PD4/AIN4 (io), 12 PD5/AIN5 (io), 13 VAREF (in), 14 VSSA (power), 15 PF0/AIN8/MCO (io), 16 PF1 (HS)/BEEP (io), 17 PF2 (HS) (io), 18 PF4/AIN10/OCMP1_A (io), 19 PF6 (HS)/ICAP1_A (io), 20 PF7 (HS)/EXTCLK_A (io), 21 VDD_0 (power), 22 VSS_0 (power), 23 PC0/OCMP2_B/AIN12 (io), 24 PC1/OCMP1_B/AIN13 (io), 25 PC2 (HS)/ICAP2_B (io), 26 PC3 (HS)/ICAP1_B (io), 27 PC4/MISO/ICCDATA (io), 28 PC5/MOSI/AIN14 (io), 29 PC6/SCK/ICCCLK (io), 30 PC7/~{SS}/AIN15 (io), 31 PA3 (HS) (io), 32 VDD_1 (power), 33 VSS_1 (power), 34 PA4 (HS) (io), 35 PA5 (HS) (io), 36 PA6 (HS)/SDAI (io), 37 PA7 (HS)/SCLI (io), 38 VPP/ICCSEL (in), 39 ~{RESET} (io), 40 VSS_2 (power), 41 OSC2 (out), 42 OSC1 (in), 43 VDD_2 (power), 44 PE0/TDO (io)

## ST72321BR6T1
designator U?
8-Bit MCU with 32k ROM, 1024b RAM, Five Timers, SPI, SCI and I²C Interfaces, 64-Pin TQFP, Standard; Note: Pins 5-12, 25-27 and 43-46 are External Interrupt (EI) pins.; Published: 26-May-2004; LatestRevisionDate: 13-Apr-2006; LatestRevisionNote: IPC-7351 Footprint Added.; DatasheetVersion: rev1.1, Oct-2003; PackageVersion: rev2.4, Jan-2002; PackageReference: TQFP64-0.8; Publisher: Altium Limited; PackageDescription: 64-Pin Thin Quad Flat Pack 0.8 mm Pitch; ComponentLink1Description: Manufacturer Link; ComponentLink1URL: http://www.st.com/; ComponentLink2Description: Datasheet; ComponentLink2URL: http://www.st.com/stonline/products/literature/ds/11000/st72321b.pdf
footprint TQFP64-0.8_N (Thin QFP, 64-Leads, Body 14x14mm, Pitch 0.8mm, IPC Medium Density)
footprint TQFP64-0.8_L (Thin QFP, 64-Leads, Body 14x14mm, Pitch 0.8mm, IPC High Density)
footprint TQFP64-0.8_M (Thin QFP, 64-Leads, Body 14x14mm, Pitch 0.8mm, IPC Low Density)
3D model ST72321B-TQFP64-0_8 (64-Pin Thin Quad Flat Pack 0.8 mm Pitch)
pins: 1 PE4 (HS) (io), 2 PE5 (HS) (io), 3 PE6 (HS) (io), 4 PE7 (HS) (io), 5 PB0/PWM3 (io), 6 PB1/PWM2 (io), 7 PB2/PWM1 (io), 8 PB3/PWM0 (io), 9 PB4 (HS)/ARTCLK (io), 10 PB5/ARTIC1 (io), 11 PB6/ARTIC2 (io), 12 PB7 (io), 13 PD0/AIN0 (io), 14 PD1/AIN1 (io), 15 PD2/AIN2 (io), 16 PD3/AIN3 (io), 17 PD4/AIN4 (io), 18 PD5/AIN5 (io), 19 PD6/AIN6 (io), 20 PD7/AIN7 (io), 21 VAREF (in), 22 VSSA (power), 23 VDD_3 (power), 24 VSS_3 (power), 25 PF0/AIN8/MCO (io), 26 PF1 (HS)/BEEP (io), 27 PF2 (HS) (io), 28 PF3/AIN9/OCMP2_A (io), 29 PF4/AIN10/OCMP1_A (io), 30 PF5/AIN11/ICAP2_A (io), 31 PF6 (HS)/ICAP1_A (io), 32 PF7 (HS)/EXTCLK_A (io), 33 VDD_0 (power), 34 VSS_0 (power), 35 PC0/OCMP2_B/AIN12 (io), 36 PC1/OCMP1_B/AIN13 (io), 37 PC2 (HS)/ICAP2_B (io), 38 PC3 (HS)/ICAP1_B (io), 39 PC4/MISO/ICCDATA (io), 40 PC5/MOSI/AIN14 (io), 41 PC6/SCK/ICCCLK (io), 42 PC7/~{SS}/AIN15 (io), 43 PA0 (io), 44 PA1 (io), 45 PA2 (io), 46 PA3 (HS) (io), 47 VDD_1 (power), 48 VSS_1 (power), 49 PA4 (HS) (io), 50 PA5 (HS) (io), 51 PA6 (HS)/SDAI (io), 52 PA7 (HS)/SCLI (io), 53 VPP/ICCSEL (in), 54 ~{RESET} (io), 55 EVD, 56 TLI (in), 57 VSS_2 (power), 58 OSC2 (out), 59 OSC1 (in), 60 VDD_2 (power), 61 PE0/TDO (io), 62 PE1/RDI (io), 63 PE2 (io), 64 PE3 (io)

## ST72321BR6T5
designator U?
8-Bit MCU with 32k ROM, 1024b RAM, Five Timers, SPI, SCI and I²C Interfaces, 64-Pin TQFP, Standard; Note: Pins 5-12, 25-27 and 43-46 are External Interrupt (EI) pins.; Published: 26-May-2004; LatestRevisionDate: 13-Apr-2006; LatestRevisionNote: IPC-7351 Footprint Added.; DatasheetVersion: rev1.1, Oct-2003; PackageVersion: rev2.4, Jan-2002; PackageReference: TQFP64-0.8; Publisher: Altium Limited; PackageDescription: 64-Pin Thin Quad Flat Pack 0.8 mm Pitch; ComponentLink1Description: Manufacturer Link; ComponentLink1URL: http://www.st.com/; ComponentLink2Description: Datasheet; ComponentLink2URL: http://www.st.com/stonline/products/literature/ds/11000/st72321b.pdf
footprint TQFP64-0.8_N (Thin QFP, 64-Leads, Body 14x14mm, Pitch 0.8mm, IPC Medium Density)
footprint TQFP64-0.8_L (Thin QFP, 64-Leads, Body 14x14mm, Pitch 0.8mm, IPC High Density)
footprint TQFP64-0.8_M (Thin QFP, 64-Leads, Body 14x14mm, Pitch 0.8mm, IPC Low Density)
3D model ST72321B-TQFP64-0_8 (64-Pin Thin Quad Flat Pack 0.8 mm Pitch)
pins: 1 PE4 (HS) (io), 2 PE5 (HS) (io), 3 PE6 (HS) (io), 4 PE7 (HS) (io), 5 PB0/PWM3 (io), 6 PB1/PWM2 (io), 7 PB2/PWM1 (io), 8 PB3/PWM0 (io), 9 PB4 (HS)/ARTCLK (io), 10 PB5/ARTIC1 (io), 11 PB6/ARTIC2 (io), 12 PB7 (io), 13 PD0/AIN0 (io), 14 PD1/AIN1 (io), 15 PD2/AIN2 (io), 16 PD3/AIN3 (io), 17 PD4/AIN4 (io), 18 PD5/AIN5 (io), 19 PD6/AIN6 (io), 20 PD7/AIN7 (io), 21 VAREF (in), 22 VSSA (power), 23 VDD_3 (power), 24 VSS_3 (power), 25 PF0/AIN8/MCO (io), 26 PF1 (HS)/BEEP (io), 27 PF2 (HS) (io), 28 PF3/AIN9/OCMP2_A (io), 29 PF4/AIN10/OCMP1_A (io), 30 PF5/AIN11/ICAP2_A (io), 31 PF6 (HS)/ICAP1_A (io), 32 PF7 (HS)/EXTCLK_A (io), 33 VDD_0 (power), 34 VSS_0 (power), 35 PC0/OCMP2_B/AIN12 (io), 36 PC1/OCMP1_B/AIN13 (io), 37 PC2 (HS)/ICAP2_B (io), 38 PC3 (HS)/ICAP1_B (io), 39 PC4/MISO/ICCDATA (io), 40 PC5/MOSI/AIN14 (io), 41 PC6/SCK/ICCCLK (io), 42 PC7/~{SS}/AIN15 (io), 43 PA0 (io), 44 PA1 (io), 45 PA2 (io), 46 PA3 (HS) (io), 47 VDD_1 (power), 48 VSS_1 (power), 49 PA4 (HS) (io), 50 PA5 (HS) (io), 51 PA6 (HS)/SDAI (io), 52 PA7 (HS)/SCLI (io), 53 VPP/ICCSEL (in), 54 ~{RESET} (io), 55 EVD, 56 TLI (in), 57 VSS_2 (power), 58 OSC2 (out), 59 OSC1 (in), 60 VDD_2 (power), 61 PE0/TDO (io), 62 PE1/RDI (io), 63 PE2 (io), 64 PE3 (io)

## ST72321BR6T6
designator U?
8-Bit MCU with 32k ROM, 1024b RAM, Five Timers, SPI, SCI and I²C Interfaces, 64-Pin TQFP, Standard; Note: Pins 5-12, 25-27 and 43-46 are External Interrupt (EI) pins.; Published: 26-May-2004; LatestRevisionDate: 13-Apr-2006; LatestRevisionNote: IPC-7351 Footprint Added.; DatasheetVersion: rev1.1, Oct-2003; PackageVersion: rev2.4, Jan-2002; PackageReference: TQFP64-0.8; Publisher: Altium Limited; PackageDescription: 64-Pin Thin Quad Flat Pack 0.8 mm Pitch; ComponentLink1Description: Manufacturer Link; ComponentLink1URL: http://www.st.com/; ComponentLink2Description: Datasheet; ComponentLink2URL: http://www.st.com/stonline/products/literature/ds/11000/st72321b.pdf
footprint TQFP64-0.8_N (Thin QFP, 64-Leads, Body 14x14mm, Pitch 0.8mm, IPC Medium Density)
footprint TQFP64-0.8_L (Thin QFP, 64-Leads, Body 14x14mm, Pitch 0.8mm, IPC High Density)
footprint TQFP64-0.8_M (Thin QFP, 64-Leads, Body 14x14mm, Pitch 0.8mm, IPC Low Density)
3D model ST72321B-TQFP64-0_8 (64-Pin Thin Quad Flat Pack 0.8 mm Pitch)
pins: 1 PE4 (HS) (io), 2 PE5 (HS) (io), 3 PE6 (HS) (io), 4 PE7 (HS) (io), 5 PB0/PWM3 (io), 6 PB1/PWM2 (io), 7 PB2/PWM1 (io), 8 PB3/PWM0 (io), 9 PB4 (HS)/ARTCLK (io), 10 PB5/ARTIC1 (io), 11 PB6/ARTIC2 (io), 12 PB7 (io), 13 PD0/AIN0 (io), 14 PD1/AIN1 (io), 15 PD2/AIN2 (io), 16 PD3/AIN3 (io), 17 PD4/AIN4 (io), 18 PD5/AIN5 (io), 19 PD6/AIN6 (io), 20 PD7/AIN7 (io), 21 VAREF (in), 22 VSSA (power), 23 VDD_3 (power), 24 VSS_3 (power), 25 PF0/AIN8/MCO (io), 26 PF1 (HS)/BEEP (io), 27 PF2 (HS) (io), 28 PF3/AIN9/OCMP2_A (io), 29 PF4/AIN10/OCMP1_A (io), 30 PF5/AIN11/ICAP2_A (io), 31 PF6 (HS)/ICAP1_A (io), 32 PF7 (HS)/EXTCLK_A (io), 33 VDD_0 (power), 34 VSS_0 (power), 35 PC0/OCMP2_B/AIN12 (io), 36 PC1/OCMP1_B/AIN13 (io), 37 PC2 (HS)/ICAP2_B (io), 38 PC3 (HS)/ICAP1_B (io), 39 PC4/MISO/ICCDATA (io), 40 PC5/MOSI/AIN14 (io), 41 PC6/SCK/ICCCLK (io), 42 PC7/~{SS}/AIN15 (io), 43 PA0 (io), 44 PA1 (io), 45 PA2 (io), 46 PA3 (HS) (io), 47 VDD_1 (power), 48 VSS_1 (power), 49 PA4 (HS) (io), 50 PA5 (HS) (io), 51 PA6 (HS)/SDAI (io), 52 PA7 (HS)/SCLI (io), 53 VPP/ICCSEL (in), 54 ~{RESET} (io), 55 EVD, 56 TLI (in), 57 VSS_2 (power), 58 OSC2 (out), 59 OSC1 (in), 60 VDD_2 (power), 61 PE0/TDO (io), 62 PE1/RDI (io), 63 PE2 (io), 64 PE3 (io)

## ST72321BR6TA
designator U?
8-Bit MCU with 32k ROM, 1024b RAM, Five Timers, SPI, SCI and I²C Interfaces, 64-Pin TQFP, Automotive; Note: Pins 5-12, 25-27 and 43-46 are External Interrupt (EI) pins.; Published: 26-May-2004; LatestRevisionDate: 13-Apr-2006; LatestRevisionNote: IPC-7351 Footprint Added.; DatasheetVersion: rev1.1, Oct-2003; PackageVersion: rev2.4, Jan-2002; PackageReference: TQFP64-0.8; Publisher: Altium Limited; PackageDescription: 64-Pin Thin Quad Flat Pack 0.8 mm Pitch; ComponentLink1Description: Manufacturer Link; ComponentLink1URL: http://www.st.com/; ComponentLink2Description: Datasheet; ComponentLink2URL: http://www.st.com/stonline/products/literature/ds/11000/st72321b.pdf
footprint TQFP64-0.8_N (Thin QFP, 64-Leads, Body 14x14mm, Pitch 0.8mm, IPC Medium Density)
footprint TQFP64-0.8_L (Thin QFP, 64-Leads, Body 14x14mm, Pitch 0.8mm, IPC High Density)
footprint TQFP64-0.8_M (Thin QFP, 64-Leads, Body 14x14mm, Pitch 0.8mm, IPC Low Density)
3D model ST72321B-TQFP64-0_8 (64-Pin Thin Quad Flat Pack 0.8 mm Pitch)
pins: 1 PE4 (HS) (io), 2 PE5 (HS) (io), 3 PE6 (HS) (io), 4 PE7 (HS) (io), 5 PB0/PWM3 (io), 6 PB1/PWM2 (io), 7 PB2/PWM1 (io), 8 PB3/PWM0 (io), 9 PB4 (HS)/ARTCLK (io), 10 PB5/ARTIC1 (io), 11 PB6/ARTIC2 (io), 12 PB7 (io), 13 PD0/AIN0 (io), 14 PD1/AIN1 (io), 15 PD2/AIN2 (io), 16 PD3/AIN3 (io), 17 PD4/AIN4 (io), 18 PD5/AIN5 (io), 19 PD6/AIN6 (io), 20 PD7/AIN7 (io), 21 VAREF (in), 22 VSSA (power), 23 VDD_3 (power), 24 VSS_3 (power), 25 PF0/AIN8/MCO (io), 26 PF1 (HS)/BEEP (io), 27 PF2 (HS) (io), 28 PF3/AIN9/OCMP2_A (io), 29 PF4/AIN10/OCMP1_A (io), 30 PF5/AIN11/ICAP2_A (io), 31 PF6 (HS)/ICAP1_A (io), 32 PF7 (HS)/EXTCLK_A (io), 33 VDD_0 (power), 34 VSS_0 (power), 35 PC0/OCMP2_B/AIN12 (io), 36 PC1/OCMP1_B/AIN13 (io), 37 PC2 (HS)/ICAP2_B (io), 38 PC3 (HS)/ICAP1_B (io), 39 PC4/MISO/ICCDATA (io), 40 PC5/MOSI/AIN14 (io), 41 PC6/SCK/ICCCLK (io), 42 PC7/~{SS}/AIN15 (io), 43 PA0 (io), 44 PA1 (io), 45 PA2 (io), 46 PA3 (HS) (io), 47 VDD_1 (power), 48 VSS_1 (power), 49 PA4 (HS) (io), 50 PA5 (HS) (io), 51 PA6 (HS)/SDAI (io), 52 PA7 (HS)/SCLI (io), 53 VPP/ICCSEL (in), 54 ~{RESET} (io), 55 EVD, 56 TLI (in), 57 VSS_2 (power), 58 OSC2 (out), 59 OSC1 (in), 60 VDD_2 (power), 61 PE0/TDO (io), 62 PE1/RDI (io), 63 PE2 (io), 64 PE3 (io)

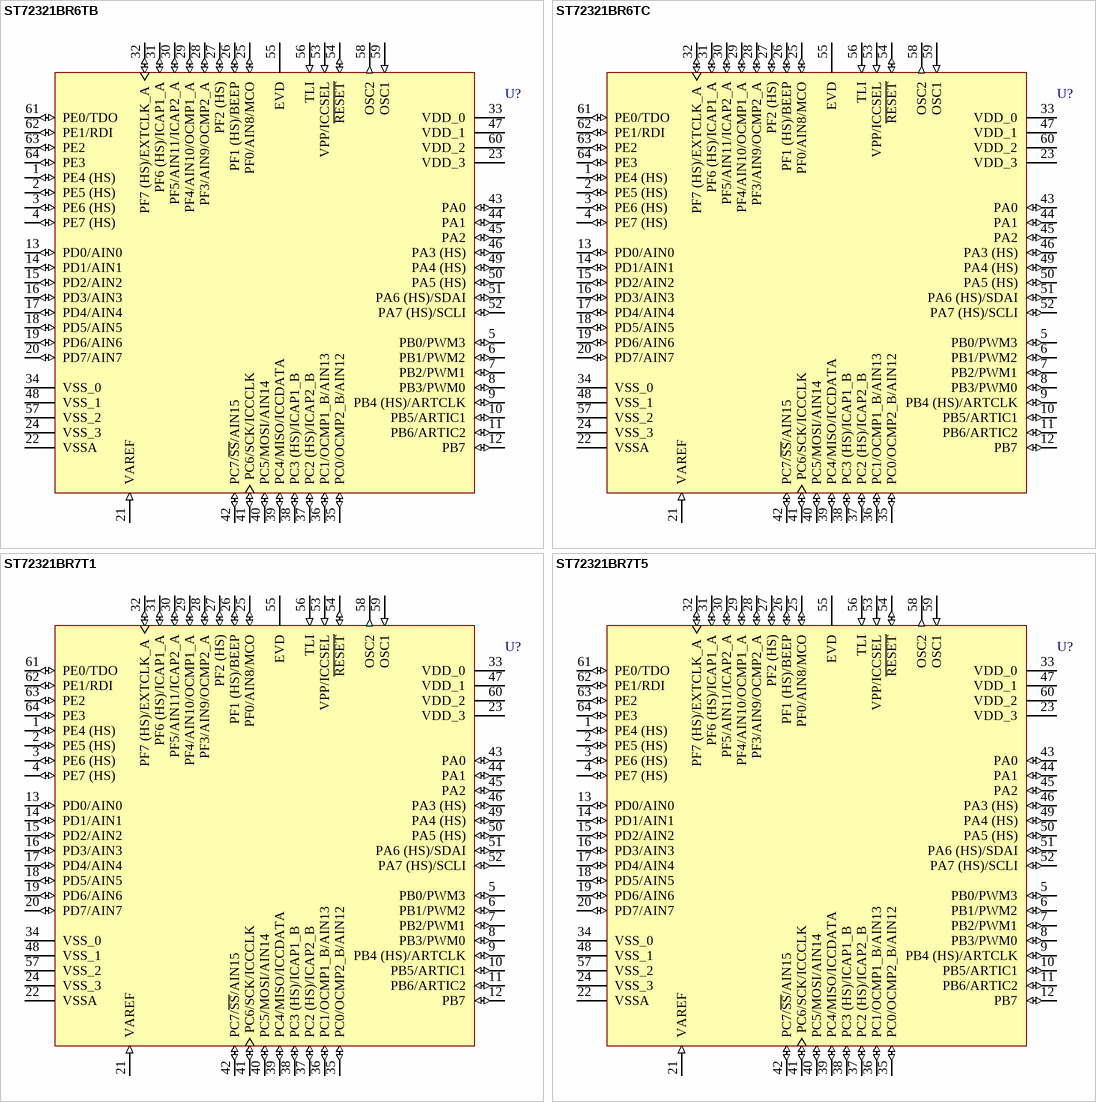
[diagram p120: symbols ST72321BR6TB to ST72321BR7T5]

## ST72321BR6TB
designator U?
8-Bit MCU with 32k ROM, 1024b RAM, Five Timers, SPI, SCI and I²C Interfaces, 64-Pin TQFP, Automotive; Note: Pins 5-12, 25-27 and 43-46 are External Interrupt (EI) pins.; Published: 26-May-2004; LatestRevisionDate: 13-Apr-2006; LatestRevisionNote: IPC-7351 Footprint Added.; DatasheetVersion: rev1.1, Oct-2003; PackageVersion: rev2.4, Jan-2002; PackageReference: TQFP64-0.8; Publisher: Altium Limited; PackageDescription: 64-Pin Thin Quad Flat Pack 0.8 mm Pitch; ComponentLink1Description: Manufacturer Link; ComponentLink1URL: http://www.st.com/; ComponentLink2Description: Datasheet; ComponentLink2URL: http://www.st.com/stonline/products/literature/ds/11000/st72321b.pdf
footprint TQFP64-0.8_N (Thin QFP, 64-Leads, Body 14x14mm, Pitch 0.8mm, IPC Medium Density)
footprint TQFP64-0.8_L (Thin QFP, 64-Leads, Body 14x14mm, Pitch 0.8mm, IPC High Density)
footprint TQFP64-0.8_M (Thin QFP, 64-Leads, Body 14x14mm, Pitch 0.8mm, IPC Low Density)
3D model ST72321B-TQFP64-0_8 (64-Pin Thin Quad Flat Pack 0.8 mm Pitch)
pins: 1 PE4 (HS) (io), 2 PE5 (HS) (io), 3 PE6 (HS) (io), 4 PE7 (HS) (io), 5 PB0/PWM3 (io), 6 PB1/PWM2 (io), 7 PB2/PWM1 (io), 8 PB3/PWM0 (io), 9 PB4 (HS)/ARTCLK (io), 10 PB5/ARTIC1 (io), 11 PB6/ARTIC2 (io), 12 PB7 (io), 13 PD0/AIN0 (io), 14 PD1/AIN1 (io), 15 PD2/AIN2 (io), 16 PD3/AIN3 (io), 17 PD4/AIN4 (io), 18 PD5/AIN5 (io), 19 PD6/AIN6 (io), 20 PD7/AIN7 (io), 21 VAREF (in), 22 VSSA (power), 23 VDD_3 (power), 24 VSS_3 (power), 25 PF0/AIN8/MCO (io), 26 PF1 (HS)/BEEP (io), 27 PF2 (HS) (io), 28 PF3/AIN9/OCMP2_A (io), 29 PF4/AIN10/OCMP1_A (io), 30 PF5/AIN11/ICAP2_A (io), 31 PF6 (HS)/ICAP1_A (io), 32 PF7 (HS)/EXTCLK_A (io), 33 VDD_0 (power), 34 VSS_0 (power), 35 PC0/OCMP2_B/AIN12 (io), 36 PC1/OCMP1_B/AIN13 (io), 37 PC2 (HS)/ICAP2_B (io), 38 PC3 (HS)/ICAP1_B (io), 39 PC4/MISO/ICCDATA (io), 40 PC5/MOSI/AIN14 (io), 41 PC6/SCK/ICCCLK (io), 42 PC7/~{SS}/AIN15 (io), 43 PA0 (io), 44 PA1 (io), 45 PA2 (io), 46 PA3 (HS) (io), 47 VDD_1 (power), 48 VSS_1 (power), 49 PA4 (HS) (io), 50 PA5 (HS) (io), 51 PA6 (HS)/SDAI (io), 52 PA7 (HS)/SCLI (io), 53 VPP/ICCSEL (in), 54 ~{RESET} (io), 55 EVD, 56 TLI (in), 57 VSS_2 (power), 58 OSC2 (out), 59 OSC1 (in), 60 VDD_2 (power), 61 PE0/TDO (io), 62 PE1/RDI (io), 63 PE2 (io), 64 PE3 (io)

## ST72321BR6TC
designator U?
8-Bit MCU with 32k ROM, 1024b RAM, Five Timers, SPI, SCI and I²C Interfaces, 64-Pin TQFP, Automotive; Note: Pins 5-12, 25-27 and 43-46 are External Interrupt (EI) pins.; Published: 26-May-2004; LatestRevisionDate: 13-Apr-2006; LatestRevisionNote: IPC-7351 Footprint Added.; DatasheetVersion: rev1.1, Oct-2003; PackageVersion: rev2.4, Jan-2002; PackageReference: TQFP64-0.8; Publisher: Altium Limited; PackageDescription: 64-Pin Thin Quad Flat Pack 0.8 mm Pitch; ComponentLink1Description: Manufacturer Link; ComponentLink1URL: http://www.st.com/; ComponentLink2Description: Datasheet; ComponentLink2URL: http://www.st.com/stonline/products/literature/ds/11000/st72321b.pdf
footprint TQFP64-0.8_N (Thin QFP, 64-Leads, Body 14x14mm, Pitch 0.8mm, IPC Medium Density)
footprint TQFP64-0.8_L (Thin QFP, 64-Leads, Body 14x14mm, Pitch 0.8mm, IPC High Density)
footprint TQFP64-0.8_M (Thin QFP, 64-Leads, Body 14x14mm, Pitch 0.8mm, IPC Low Density)
3D model ST72321B-TQFP64-0_8 (64-Pin Thin Quad Flat Pack 0.8 mm Pitch)
pins: 1 PE4 (HS) (io), 2 PE5 (HS) (io), 3 PE6 (HS) (io), 4 PE7 (HS) (io), 5 PB0/PWM3 (io), 6 PB1/PWM2 (io), 7 PB2/PWM1 (io), 8 PB3/PWM0 (io), 9 PB4 (HS)/ARTCLK (io), 10 PB5/ARTIC1 (io), 11 PB6/ARTIC2 (io), 12 PB7 (io), 13 PD0/AIN0 (io), 14 PD1/AIN1 (io), 15 PD2/AIN2 (io), 16 PD3/AIN3 (io), 17 PD4/AIN4 (io), 18 PD5/AIN5 (io), 19 PD6/AIN6 (io), 20 PD7/AIN7 (io), 21 VAREF (in), 22 VSSA (power), 23 VDD_3 (power), 24 VSS_3 (power), 25 PF0/AIN8/MCO (io), 26 PF1 (HS)/BEEP (io), 27 PF2 (HS) (io), 28 PF3/AIN9/OCMP2_A (io), 29 PF4/AIN10/OCMP1_A (io), 30 PF5/AIN11/ICAP2_A (io), 31 PF6 (HS)/ICAP1_A (io), 32 PF7 (HS)/EXTCLK_A (io), 33 VDD_0 (power), 34 VSS_0 (power), 35 PC0/OCMP2_B/AIN12 (io), 36 PC1/OCMP1_B/AIN13 (io), 37 PC2 (HS)/ICAP2_B (io), 38 PC3 (HS)/ICAP1_B (io), 39 PC4/MISO/ICCDATA (io), 40 PC5/MOSI/AIN14 (io), 41 PC6/SCK/ICCCLK (io), 42 PC7/~{SS}/AIN15 (io), 43 PA0 (io), 44 PA1 (io), 45 PA2 (io), 46 PA3 (HS) (io), 47 VDD_1 (power), 48 VSS_1 (power), 49 PA4 (HS) (io), 50 PA5 (HS) (io), 51 PA6 (HS)/SDAI (io), 52 PA7 (HS)/SCLI (io), 53 VPP/ICCSEL (in), 54 ~{RESET} (io), 55 EVD, 56 TLI (in), 57 VSS_2 (power), 58 OSC2 (out), 59 OSC1 (in), 60 VDD_2 (power), 61 PE0/TDO (io), 62 PE1/RDI (io), 63 PE2 (io), 64 PE3 (io)

## ST72321BR7T1
designator U?
8-Bit MCU with 48k ROM, 1536b RAM, Five Timers, SPI, SCI and I²C Interfaces, 64-Pin TQFP, Standard; Note: Pins 5-12, 25-27 and 43-46 are External Interrupt (EI) pins.; Published: 26-May-2004; LatestRevisionDate: 13-Apr-2006; LatestRevisionNote: IPC-7351 Footprint Added.; DatasheetVersion: rev1.1, Oct-2003; PackageVersion: rev2.4, Jan-2002; PackageReference: TQFP64-0.8; Publisher: Altium Limited; PackageDescription: 64-Pin Thin Quad Flat Pack 0.8 mm Pitch; ComponentLink1Description: Manufacturer Link; ComponentLink1URL: http://www.st.com/; ComponentLink2Description: Datasheet; ComponentLink2URL: http://www.st.com/stonline/products/literature/ds/11000/st72321b.pdf
footprint TQFP64-0.8_N (Thin QFP, 64-Leads, Body 14x14mm, Pitch 0.8mm, IPC Medium Density)
footprint TQFP64-0.8_L (Thin QFP, 64-Leads, Body 14x14mm, Pitch 0.8mm, IPC High Density)
footprint TQFP64-0.8_M (Thin QFP, 64-Leads, Body 14x14mm, Pitch 0.8mm, IPC Low Density)
3D model ST72321B-TQFP64-0_8 (64-Pin Thin Quad Flat Pack 0.8 mm Pitch)
pins: 1 PE4 (HS) (io), 2 PE5 (HS) (io), 3 PE6 (HS) (io), 4 PE7 (HS) (io), 5 PB0/PWM3 (io), 6 PB1/PWM2 (io), 7 PB2/PWM1 (io), 8 PB3/PWM0 (io), 9 PB4 (HS)/ARTCLK (io), 10 PB5/ARTIC1 (io), 11 PB6/ARTIC2 (io), 12 PB7 (io), 13 PD0/AIN0 (io), 14 PD1/AIN1 (io), 15 PD2/AIN2 (io), 16 PD3/AIN3 (io), 17 PD4/AIN4 (io), 18 PD5/AIN5 (io), 19 PD6/AIN6 (io), 20 PD7/AIN7 (io), 21 VAREF (in), 22 VSSA (power), 23 VDD_3 (power), 24 VSS_3 (power), 25 PF0/AIN8/MCO (io), 26 PF1 (HS)/BEEP (io), 27 PF2 (HS) (io), 28 PF3/AIN9/OCMP2_A (io), 29 PF4/AIN10/OCMP1_A (io), 30 PF5/AIN11/ICAP2_A (io), 31 PF6 (HS)/ICAP1_A (io), 32 PF7 (HS)/EXTCLK_A (io), 33 VDD_0 (power), 34 VSS_0 (power), 35 PC0/OCMP2_B/AIN12 (io), 36 PC1/OCMP1_B/AIN13 (io), 37 PC2 (HS)/ICAP2_B (io), 38 PC3 (HS)/ICAP1_B (io), 39 PC4/MISO/ICCDATA (io), 40 PC5/MOSI/AIN14 (io), 41 PC6/SCK/ICCCLK (io), 42 PC7/~{SS}/AIN15 (io), 43 PA0 (io), 44 PA1 (io), 45 PA2 (io), 46 PA3 (HS) (io), 47 VDD_1 (power), 48 VSS_1 (power), 49 PA4 (HS) (io), 50 PA5 (HS) (io), 51 PA6 (HS)/SDAI (io), 52 PA7 (HS)/SCLI (io), 53 VPP/ICCSEL (in), 54 ~{RESET} (io), 55 EVD, 56 TLI (in), 57 VSS_2 (power), 58 OSC2 (out), 59 OSC1 (in), 60 VDD_2 (power), 61 PE0/TDO (io), 62 PE1/RDI (io), 63 PE2 (io), 64 PE3 (io)

## ST72321BR7T5
designator U?
8-Bit MCU with 48k ROM, 1536b RAM, Five Timers, SPI, SCI and I²C Interfaces, 64-Pin TQFP, Standard; Note: Pins 5-12, 25-27 and 43-46 are External Interrupt (EI) pins.; Published: 26-May-2004; LatestRevisionDate: 13-Apr-2006; LatestRevisionNote: IPC-7351 Footprint Added.; DatasheetVersion: rev1.1, Oct-2003; PackageVersion: rev2.4, Jan-2002; PackageReference: TQFP64-0.8; Publisher: Altium Limited; PackageDescription: 64-Pin Thin Quad Flat Pack 0.8 mm Pitch; ComponentLink1Description: Manufacturer Link; ComponentLink1URL: http://www.st.com/; ComponentLink2Description: Datasheet; ComponentLink2URL: http://www.st.com/stonline/products/literature/ds/11000/st72321b.pdf
footprint TQFP64-0.8_N (Thin QFP, 64-Leads, Body 14x14mm, Pitch 0.8mm, IPC Medium Density)
footprint TQFP64-0.8_L (Thin QFP, 64-Leads, Body 14x14mm, Pitch 0.8mm, IPC High Density)
footprint TQFP64-0.8_M (Thin QFP, 64-Leads, Body 14x14mm, Pitch 0.8mm, IPC Low Density)
3D model ST72321B-TQFP64-0_8 (64-Pin Thin Quad Flat Pack 0.8 mm Pitch)
pins: 1 PE4 (HS) (io), 2 PE5 (HS) (io), 3 PE6 (HS) (io), 4 PE7 (HS) (io), 5 PB0/PWM3 (io), 6 PB1/PWM2 (io), 7 PB2/PWM1 (io), 8 PB3/PWM0 (io), 9 PB4 (HS)/ARTCLK (io), 10 PB5/ARTIC1 (io), 11 PB6/ARTIC2 (io), 12 PB7 (io), 13 PD0/AIN0 (io), 14 PD1/AIN1 (io), 15 PD2/AIN2 (io), 16 PD3/AIN3 (io), 17 PD4/AIN4 (io), 18 PD5/AIN5 (io), 19 PD6/AIN6 (io), 20 PD7/AIN7 (io), 21 VAREF (in), 22 VSSA (power), 23 VDD_3 (power), 24 VSS_3 (power), 25 PF0/AIN8/MCO (io), 26 PF1 (HS)/BEEP (io), 27 PF2 (HS) (io), 28 PF3/AIN9/OCMP2_A (io), 29 PF4/AIN10/OCMP1_A (io), 30 PF5/AIN11/ICAP2_A (io), 31 PF6 (HS)/ICAP1_A (io), 32 PF7 (HS)/EXTCLK_A (io), 33 VDD_0 (power), 34 VSS_0 (power), 35 PC0/OCMP2_B/AIN12 (io), 36 PC1/OCMP1_B/AIN13 (io), 37 PC2 (HS)/ICAP2_B (io), 38 PC3 (HS)/ICAP1_B (io), 39 PC4/MISO/ICCDATA (io), 40 PC5/MOSI/AIN14 (io), 41 PC6/SCK/ICCCLK (io), 42 PC7/~{SS}/AIN15 (io), 43 PA0 (io), 44 PA1 (io), 45 PA2 (io), 46 PA3 (HS) (io), 47 VDD_1 (power), 48 VSS_1 (power), 49 PA4 (HS) (io), 50 PA5 (HS) (io), 51 PA6 (HS)/SDAI (io), 52 PA7 (HS)/SCLI (io), 53 VPP/ICCSEL (in), 54 ~{RESET} (io), 55 EVD, 56 TLI (in), 57 VSS_2 (power), 58 OSC2 (out), 59 OSC1 (in), 60 VDD_2 (power), 61 PE0/TDO (io), 62 PE1/RDI (io), 63 PE2 (io), 64 PE3 (io)

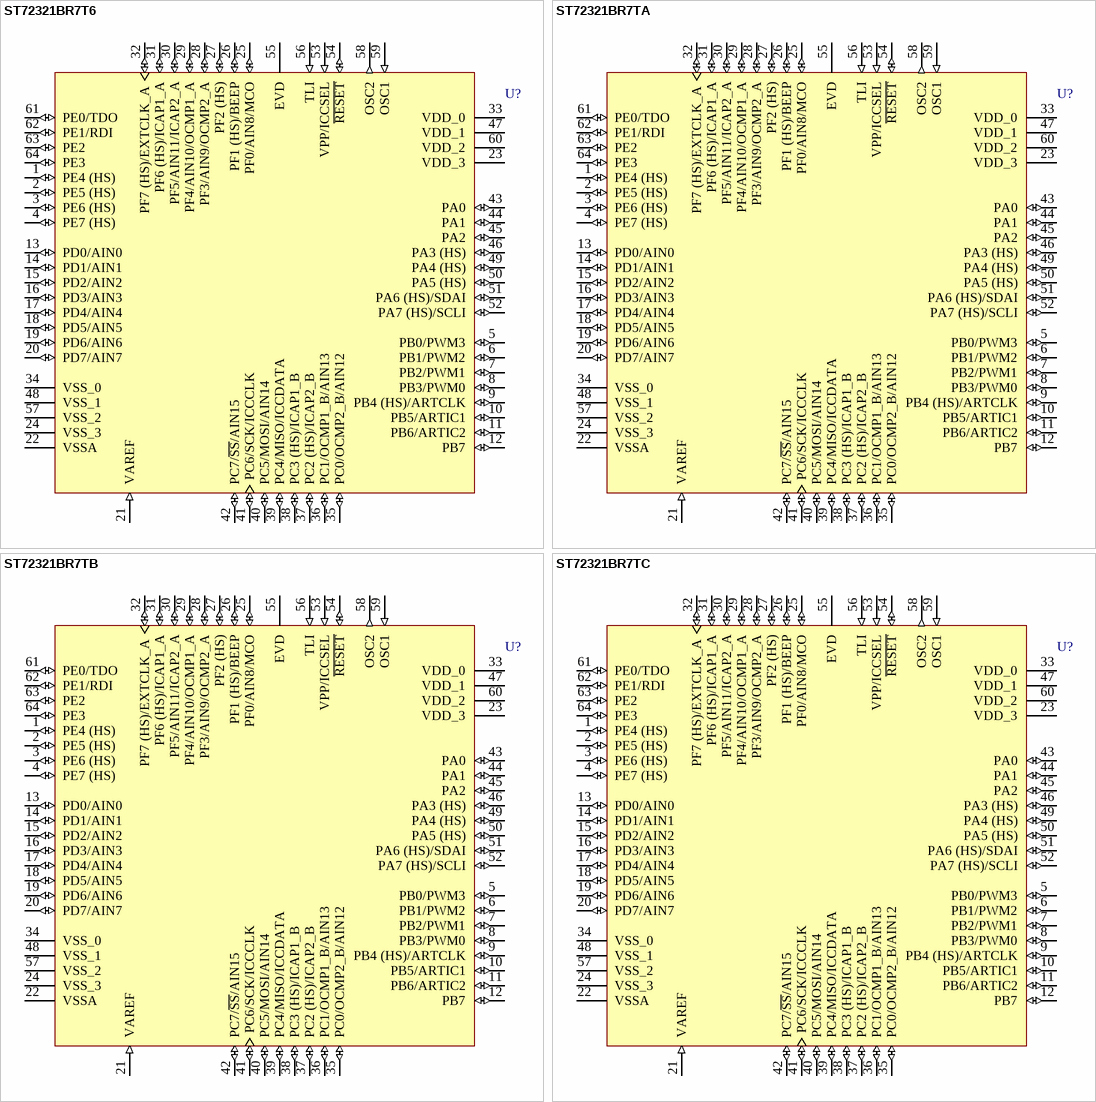
[diagram p121: symbols ST72321BR7T6 to ST72321BR7TC]

## ST72321BR7T6
designator U?
8-Bit MCU with 48k ROM, 1536b RAM, Five Timers, SPI, SCI and I²C Interfaces, 64-Pin TQFP, Standard; Note: Pins 5-12, 25-27 and 43-46 are External Interrupt (EI) pins.; Published: 26-May-2004; LatestRevisionDate: 13-Apr-2006; LatestRevisionNote: IPC-7351 Footprint Added.; DatasheetVersion: rev1.1, Oct-2003; PackageVersion: rev2.4, Jan-2002; PackageReference: TQFP64-0.8; Publisher: Altium Limited; PackageDescription: 64-Pin Thin Quad Flat Pack 0.8 mm Pitch; ComponentLink1Description: Manufacturer Link; ComponentLink1URL: http://www.st.com/; ComponentLink2Description: Datasheet; ComponentLink2URL: http://www.st.com/stonline/products/literature/ds/11000/st72321b.pdf
footprint TQFP64-0.8_N (Thin QFP, 64-Leads, Body 14x14mm, Pitch 0.8mm, IPC Medium Density)
footprint TQFP64-0.8_L (Thin QFP, 64-Leads, Body 14x14mm, Pitch 0.8mm, IPC High Density)
footprint TQFP64-0.8_M (Thin QFP, 64-Leads, Body 14x14mm, Pitch 0.8mm, IPC Low Density)
3D model ST72321B-TQFP64-0_8 (64-Pin Thin Quad Flat Pack 0.8 mm Pitch)
pins: 1 PE4 (HS) (io), 2 PE5 (HS) (io), 3 PE6 (HS) (io), 4 PE7 (HS) (io), 5 PB0/PWM3 (io), 6 PB1/PWM2 (io), 7 PB2/PWM1 (io), 8 PB3/PWM0 (io), 9 PB4 (HS)/ARTCLK (io), 10 PB5/ARTIC1 (io), 11 PB6/ARTIC2 (io), 12 PB7 (io), 13 PD0/AIN0 (io), 14 PD1/AIN1 (io), 15 PD2/AIN2 (io), 16 PD3/AIN3 (io), 17 PD4/AIN4 (io), 18 PD5/AIN5 (io), 19 PD6/AIN6 (io), 20 PD7/AIN7 (io), 21 VAREF (in), 22 VSSA (power), 23 VDD_3 (power), 24 VSS_3 (power), 25 PF0/AIN8/MCO (io), 26 PF1 (HS)/BEEP (io), 27 PF2 (HS) (io), 28 PF3/AIN9/OCMP2_A (io), 29 PF4/AIN10/OCMP1_A (io), 30 PF5/AIN11/ICAP2_A (io), 31 PF6 (HS)/ICAP1_A (io), 32 PF7 (HS)/EXTCLK_A (io), 33 VDD_0 (power), 34 VSS_0 (power), 35 PC0/OCMP2_B/AIN12 (io), 36 PC1/OCMP1_B/AIN13 (io), 37 PC2 (HS)/ICAP2_B (io), 38 PC3 (HS)/ICAP1_B (io), 39 PC4/MISO/ICCDATA (io), 40 PC5/MOSI/AIN14 (io), 41 PC6/SCK/ICCCLK (io), 42 PC7/~{SS}/AIN15 (io), 43 PA0 (io), 44 PA1 (io), 45 PA2 (io), 46 PA3 (HS) (io), 47 VDD_1 (power), 48 VSS_1 (power), 49 PA4 (HS) (io), 50 PA5 (HS) (io), 51 PA6 (HS)/SDAI (io), 52 PA7 (HS)/SCLI (io), 53 VPP/ICCSEL (in), 54 ~{RESET} (io), 55 EVD, 56 TLI (in), 57 VSS_2 (power), 58 OSC2 (out), 59 OSC1 (in), 60 VDD_2 (power), 61 PE0/TDO (io), 62 PE1/RDI (io), 63 PE2 (io), 64 PE3 (io)

## ST72321BR7TA
designator U?
8-Bit MCU with 48k ROM, 1536b RAM, Five Timers, SPI, SCI and I²C Interfaces, 64-Pin TQFP, Automotive; Note: Pins 5-12, 25-27 and 43-46 are External Interrupt (EI) pins.; Published: 26-May-2004; LatestRevisionDate: 13-Apr-2006; LatestRevisionNote: IPC-7351 Footprint Added.; DatasheetVersion: rev1.1, Oct-2003; PackageVersion: rev2.4, Jan-2002; PackageReference: TQFP64-0.8; Publisher: Altium Limited; PackageDescription: 64-Pin Thin Quad Flat Pack 0.8 mm Pitch; ComponentLink1Description: Manufacturer Link; ComponentLink1URL: http://www.st.com/; ComponentLink2Description: Datasheet; ComponentLink2URL: http://www.st.com/stonline/products/literature/ds/11000/st72321b.pdf
footprint TQFP64-0.8_N (Thin QFP, 64-Leads, Body 14x14mm, Pitch 0.8mm, IPC Medium Density)
footprint TQFP64-0.8_L (Thin QFP, 64-Leads, Body 14x14mm, Pitch 0.8mm, IPC High Density)
footprint TQFP64-0.8_M (Thin QFP, 64-Leads, Body 14x14mm, Pitch 0.8mm, IPC Low Density)
3D model ST72321B-TQFP64-0_8 (64-Pin Thin Quad Flat Pack 0.8 mm Pitch)
pins: 1 PE4 (HS) (io), 2 PE5 (HS) (io), 3 PE6 (HS) (io), 4 PE7 (HS) (io), 5 PB0/PWM3 (io), 6 PB1/PWM2 (io), 7 PB2/PWM1 (io), 8 PB3/PWM0 (io), 9 PB4 (HS)/ARTCLK (io), 10 PB5/ARTIC1 (io), 11 PB6/ARTIC2 (io), 12 PB7 (io), 13 PD0/AIN0 (io), 14 PD1/AIN1 (io), 15 PD2/AIN2 (io), 16 PD3/AIN3 (io), 17 PD4/AIN4 (io), 18 PD5/AIN5 (io), 19 PD6/AIN6 (io), 20 PD7/AIN7 (io), 21 VAREF (in), 22 VSSA (power), 23 VDD_3 (power), 24 VSS_3 (power), 25 PF0/AIN8/MCO (io), 26 PF1 (HS)/BEEP (io), 27 PF2 (HS) (io), 28 PF3/AIN9/OCMP2_A (io), 29 PF4/AIN10/OCMP1_A (io), 30 PF5/AIN11/ICAP2_A (io), 31 PF6 (HS)/ICAP1_A (io), 32 PF7 (HS)/EXTCLK_A (io), 33 VDD_0 (power), 34 VSS_0 (power), 35 PC0/OCMP2_B/AIN12 (io), 36 PC1/OCMP1_B/AIN13 (io), 37 PC2 (HS)/ICAP2_B (io), 38 PC3 (HS)/ICAP1_B (io), 39 PC4/MISO/ICCDATA (io), 40 PC5/MOSI/AIN14 (io), 41 PC6/SCK/ICCCLK (io), 42 PC7/~{SS}/AIN15 (io), 43 PA0 (io), 44 PA1 (io), 45 PA2 (io), 46 PA3 (HS) (io), 47 VDD_1 (power), 48 VSS_1 (power), 49 PA4 (HS) (io), 50 PA5 (HS) (io), 51 PA6 (HS)/SDAI (io), 52 PA7 (HS)/SCLI (io), 53 VPP/ICCSEL (in), 54 ~{RESET} (io), 55 EVD, 56 TLI (in), 57 VSS_2 (power), 58 OSC2 (out), 59 OSC1 (in), 60 VDD_2 (power), 61 PE0/TDO (io), 62 PE1/RDI (io), 63 PE2 (io), 64 PE3 (io)